# Altium schematic symbol library ADP_MyLib.SchLib: 175 symbols (part 1 of 3)
Pins are listed as number, name and electrical type; pins without a type are passive.

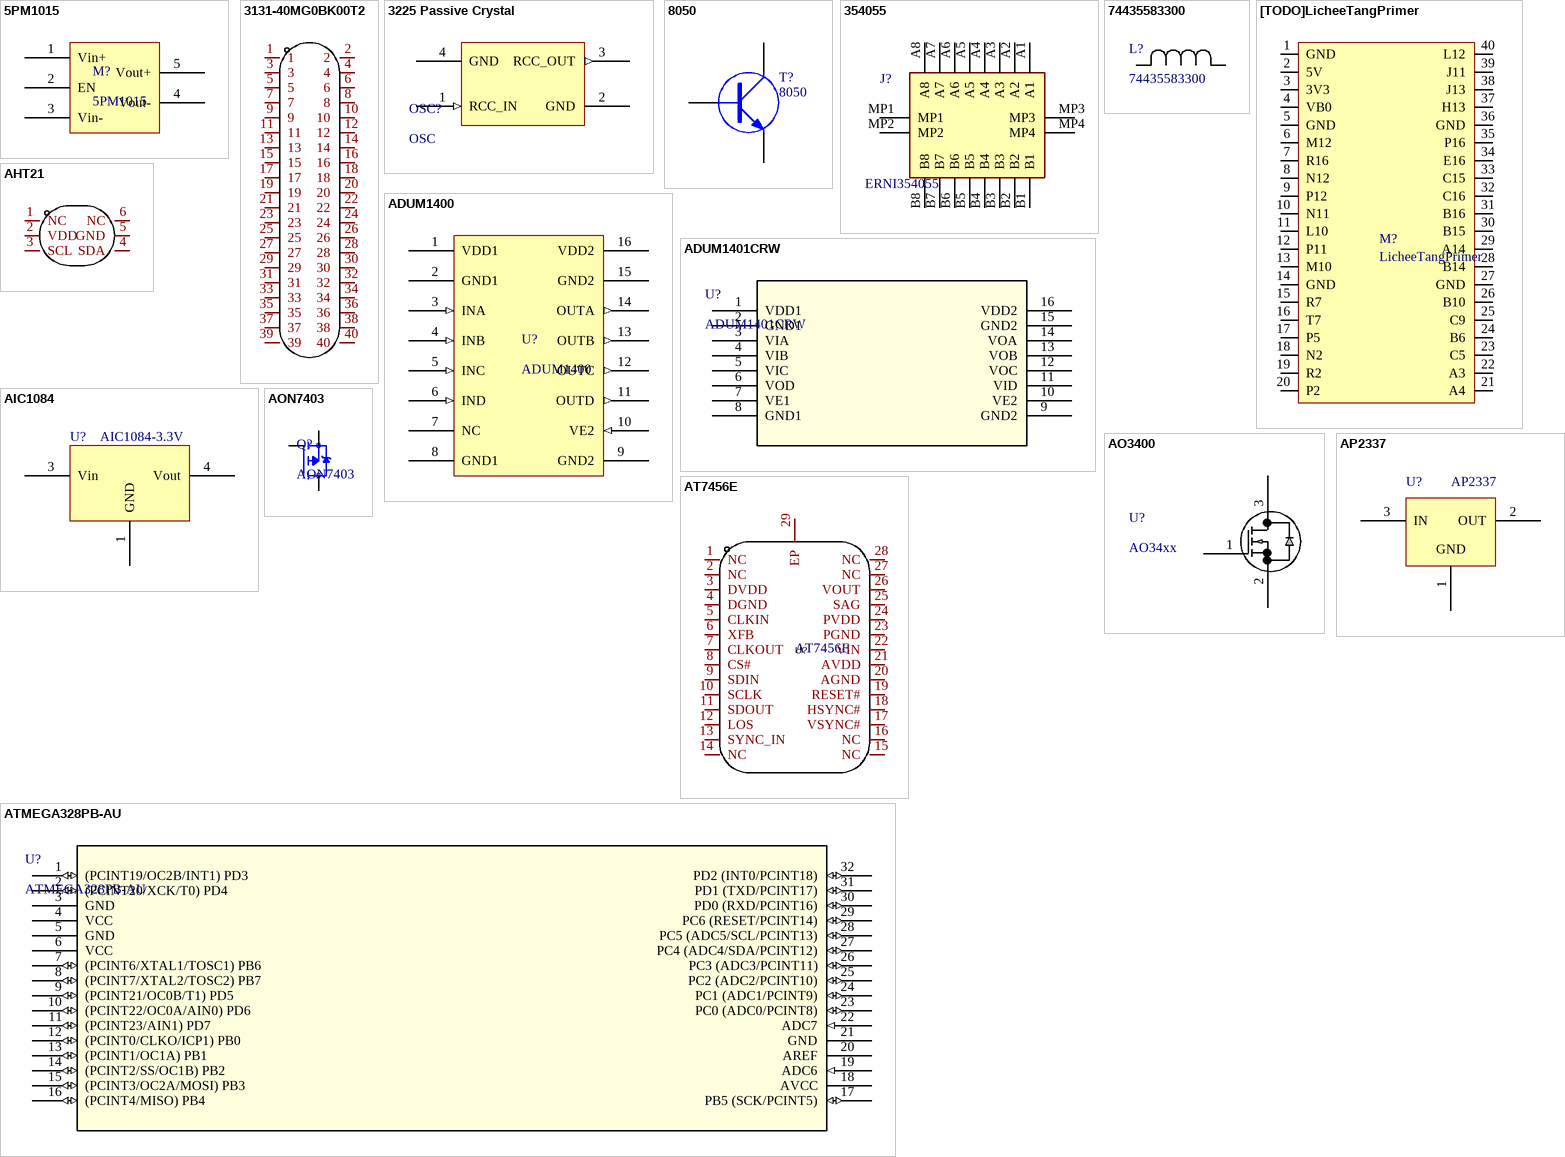
[diagram p0: symbols 5PM1015 to ATMEGA328PB-AU]

## 5PM1015
designator M?
5A输出电源模块
footprint 5PM1015 (5A输出电源模块)
pins: 1 Vin+, 2 EN, 3 Vin-, 4 Vout-, 5 Vout+

## 3131-40MG0BK00T2
designator CN?  (value not drawn)
2X20P BTB; Manufacturer: Wcon(维峰电子); Add into BOM: yes; Connector Type: 简牛座; Pitch: 1.27mm; Current Rating (Max): 1A; Holder Type: 立贴; Pin Number in each Row: 20; Symbol: 3131-40MG0BK00T2; Device: 3131-40MG0BK00T2; Supplier: LCSC; Supplier Part: C976753; Manufacturer Part: 3131-40MG0BK00T2; JLCPCB Part Class: Extended Part; LCSC Part Name: 1.27mm 2x20P 排数:2 每排P数:20; Supplier Footprint: SMD,P=1.27mm; Datasheet: https://atta.szlcsc.com/upload/public/pdf/source/20211202/B702BBAB0AED51B28E1877A6EDDD5ECD.pdf; Convert to PCB: yes; Structure: 2x20P; Voltage Rating (Max): -; Row Spacing: 1.27mm; Number of Rows: 2; Operating Temperature Range: -40℃~+105℃
footprint CONN-SMD_40P-P1.27_WCON_3131-40MG0BK00T2
pins: 1, 2, 3, 4, 5, 6, 7, 8, 9, 10, 11, 12, 13, 14, 15, 16, 17, 18, 19, 20, 21, 22, 23, 24, 25, 26, 27, 28, 29, 30, 31, 32, 33, 34, 35, 36, 37, 38, 39, 40

## 3225 Passive Crystal
designator OSC?, comment OSC
晶振
footprint SMD-3225
pins: 1 RCC_IN (in), 2 GND (power), 3 RCC_OUT (out), 4 GND (power)

## 8050
designator T?
NPN三极管
footprint TO92B
footprint SOT23-3L
pins: 1 B, 2 E, 3 C

## 354055
designator J?, comment ERNI354055
SMC Female Connector 16-pin, vertical, SMT; Manufacturer_Name: ERNI; Manufacturer_Part_Number: 354055; Geometry.Height: 6.55mm; Mouser Part Number: 305-354055; Mouser Price/Stock: https://www.mouser.co.uk/ProductDetail/ERNI/354055?qs=5HRuLjoIg%2FHZR%252BxuQao%2FQQ%3D%3D; Arrow Part Number: *; Arrow Price/Stock: *; Datasheet Link: https://www.erni.com/fileadmin/import/products/assets/DC0006573.PDF
footprint 354055
pins: A1, A2, A3, A4, A5, A6, A7, A8, B1, B2, B3, B4, B5, B6, B7, B8, MP1, MP2, MP3, MP4

## 74435583300
designator L?
Inductor; Mfr_Name: Wurth Electronics; Type: DEV; Copyright: Copyright (C) 2023 Ultra Librarian. All rights reserved.; Manufacturer_Part_Number: 74435583300; RefDes: RefDes
footprint IND_2212-WE-HCI_WRE
footprint IND_2212-WE-HCI_WRE-L
footprint IND_2212-WE-HCI_WRE-M
pins: 1, 2

## [TODO]LicheeTangPrimer
designator M?, comment LicheeTangPrimer
TANG-primer开发板
pins: 1 GND, 2 5V, 3 3V3, 4 VB0, 5 GND, 6 M12, 7 R16, 8 N12, 9 P12, 10 N11, 11 L10, 12 P11, 13 M10, 14 GND, 15 R7, 16 T7, 17 P5, 18 N2, 19 R2, 20 P2, 21 A4, 22 A3, 23 C5, 24 B6, 25 C9, 26 B10, 27 GND, 28 B14, 29 A14, 30 B15, 31 B16, 32 C16, 33 C15, 34 E16, 35 P16, 36 GND, 37 H13, 38 J13, 39 J11, 40 L12

## ADUM1400
designator U?
ISOW7840/ADUM1400数字隔离器
footprint ISOW7840 (SOIC, 16-Leads, Body 10.30x7.50mm, Pitch 1.27mm, IPC Medium Density)
pins: 1 VDD1 (power), 2 GND1 (power), 3 INA (in), 4 INB (in), 5 INC (in), 6 IND (in), 7 NC, 8 GND1 (power), 9 GND2 (power), 10 VE2 (in), 11 OUTD (out), 12 OUTC (out), 13 OUTB (out), 14 OUTA (out), 15 GND2 (power), 16 VDD2 (power)

## ADUM1401CRW
designator U?
ADUM1401数字隔离器; Mfr_Name: Analog Devices Inc; RefDes: RefDes; Type: Type
footprint RW_16_ADI
footprint RW_16_ADI-L
footprint RW_16_ADI-M
pins: 1 VDD1 (power), 2 GND1, 3 VIA, 4 VIB, 5 VIC, 6 VOD, 7 VE1, 8 GND1, 9 GND2, 10 VE2, 11 VID, 12 VOC, 13 VOB, 14 VOA, 15 GND2, 16 VDD2 (power)

## AHT21
designator U?  (value not drawn)
Manufacturer: 广州奥松; Add into BOM: yes; Symbol: AHT21; Device: AHT21; Supplier: LCSC; Supplier Part: C2827328; Manufacturer Part: AHT21; JLCPCB Part Class: Extended Part; LCSC Part Name: AHT21; Supplier Footprint: SMD-6P,3x3mm; Datasheet: https://atta.szlcsc.com/upload/public/pdf/source/20210416/C2827328_0E7E1F5A52E8C31F9EEA54660EEC8C04.pdf; Convert to PCB: yes
footprint SENSOR-SMD_L3.0-W3.0-P1.00-BR
pins: 1 NC, 2 VDD, 3 SCL, 4 SDA, 5 GND, 6 NC

## AIC1084
designator U?, comment AIC1084-3.3V
大功率LDO
footprint TO263-2
pins: 1 GND, 3 Vin, 4 Vout

## AO3400
designator U?, comment AO34xx
信号NMOS; Mfr_Name: onsemi; Manufacturer_Part_Number: BSS84LT1G; Copyright: Copyright (C) 2022 Ultra Librarian. All rights reserved.; RefDes: RefDes; Type: DEV
footprint SOT23-3L
pins: 1 G, 2 S, 3 D

## AON7403
designator Q?
P-Channel 30V 11A (Ta), 29A (Tc) 3.1W (Ta), 25W (Tc) Surface Mount 8-DFN (3x3); MF: Alpha & Omega Semiconductor Inc.; SnapEDA_Link: https://www.snapeda.com/parts/AON7403/Alpha%20&%20Omega%20Semiconductor%20Inc./view-part/5163826/?ref=snap; Check_prices: https://www.snapeda.com/parts/AON7403/Alpha%20&%20Omega%20Semiconductor%20Inc./view-part/5163826/?ref=eda; Digi-Key_Part_Number: 785-1303-1-ND; MP: AON7403; Value: *; Package: None
footprint TRANS_AON7403
pins: 1 S, 2 S, 3 S, 4 G, 5_8 D

## AP2337
designator U?
Load Switch
footprint SOT23-3L
pins: 1 GND, 2 OUT, 3 IN

## AT7456E
designator U?
Manufacturer: 杭州中科微; Add into BOM: yes; Symbol: AT7456E; Device: AT7456E; LCSC Part Name: AT7456E; Supplier Part: C82351; Manufacturer Part: AT7456E; Supplier Footprint: TSSOP-28-EP; JLCPCB Part Class: Extended Part; Datasheet: https://atta.szlcsc.com/upload/public/pdf/source/20180326/C82351_A40539A53E8345C88178541014FDE5FB.pdf; Supplier: LCSC; Convert to PCB: yes
footprint TSSOP-28_L9.7-W4.4-P0.65-LS6.4-BL-EP-2
pins: 1 NC, 2 NC, 3 DVDD, 4 DGND, 5 CLKIN, 6 XFB, 7 CLKOUT, 8 CS#, 9 SDIN, 10 SCLK, 11 SDOUT, 12 LOS, 13 SYNC_IN, 14 NC, 15 NC, 16 NC, 17 VSYNC#, 18 HSYNC#, 19 RESET#, 20 AGND, 21 AVDD, 22 VIN, 23 PGND, 24 PVDD, 25 SAG, 26 VOUT, 27 NC, 28 NC, 29 EP

## ATMEGA328PB-AU
designator U?
Arduino MCU; Mfr_Name: Microchip; Copyright: Copyright (C) 2023 Ultra Librarian. All rights reserved.; Manufacturer_Part_Number: ATMEGA328PB-AU; RefDes: RefDes; Type: DEV
footprint 32A_MCH
footprint 32A_MCH-L
footprint 32A_MCH-M
pins: 1 (PCINT19/OC2B/INT1) PD3 (io), 2 (PCINT20/XCK/T0) PD4 (io), 3 GND (power), 4 VCC (power), 5 GND (power), 6 VCC (power), 7 (PCINT6/XTAL1/TOSC1) PB6 (io), 8 (PCINT7/XTAL2/TOSC2) PB7 (io), 9 (PCINT21/OC0B/T1) PD5 (io), 10 (PCINT22/OC0A/AIN0) PD6 (io), 11 (PCINT23/AIN1) PD7 (io), 12 (PCINT0/CLKO/ICP1) PB0 (io), 13 (PCINT1/OC1A) PB1 (io), 14 (PCINT2/SS/OC1B) PB2 (io), 15 (PCINT3/OC2A/MOSI) PB3 (io), 16 (PCINT4/MISO) PB4 (io), 17 PB5 (SCK/PCINT5) (io), 18 AVCC (power), 19 ADC6 (in), 20 AREF, 21 GND (power), 22 ADC7 (in), 23 PC0 (ADC0/PCINT8) (io), 24 PC1 (ADC1/PCINT9) (io), 25 PC2 (ADC2/PCINT10) (io), 26 PC3 (ADC3/PCINT11) (io), 27 PC4 (ADC4/SDA/PCINT12) (io), 28 PC5 (ADC5/SCL/PCINT13) (io), 29 PC6 (RESET/PCINT14) (io), 30 PD0 (RXD/PCINT16) (io), 31 PD1 (TXD/PCINT17) (io), 32 PD2 (INT0/PCINT18) (io)

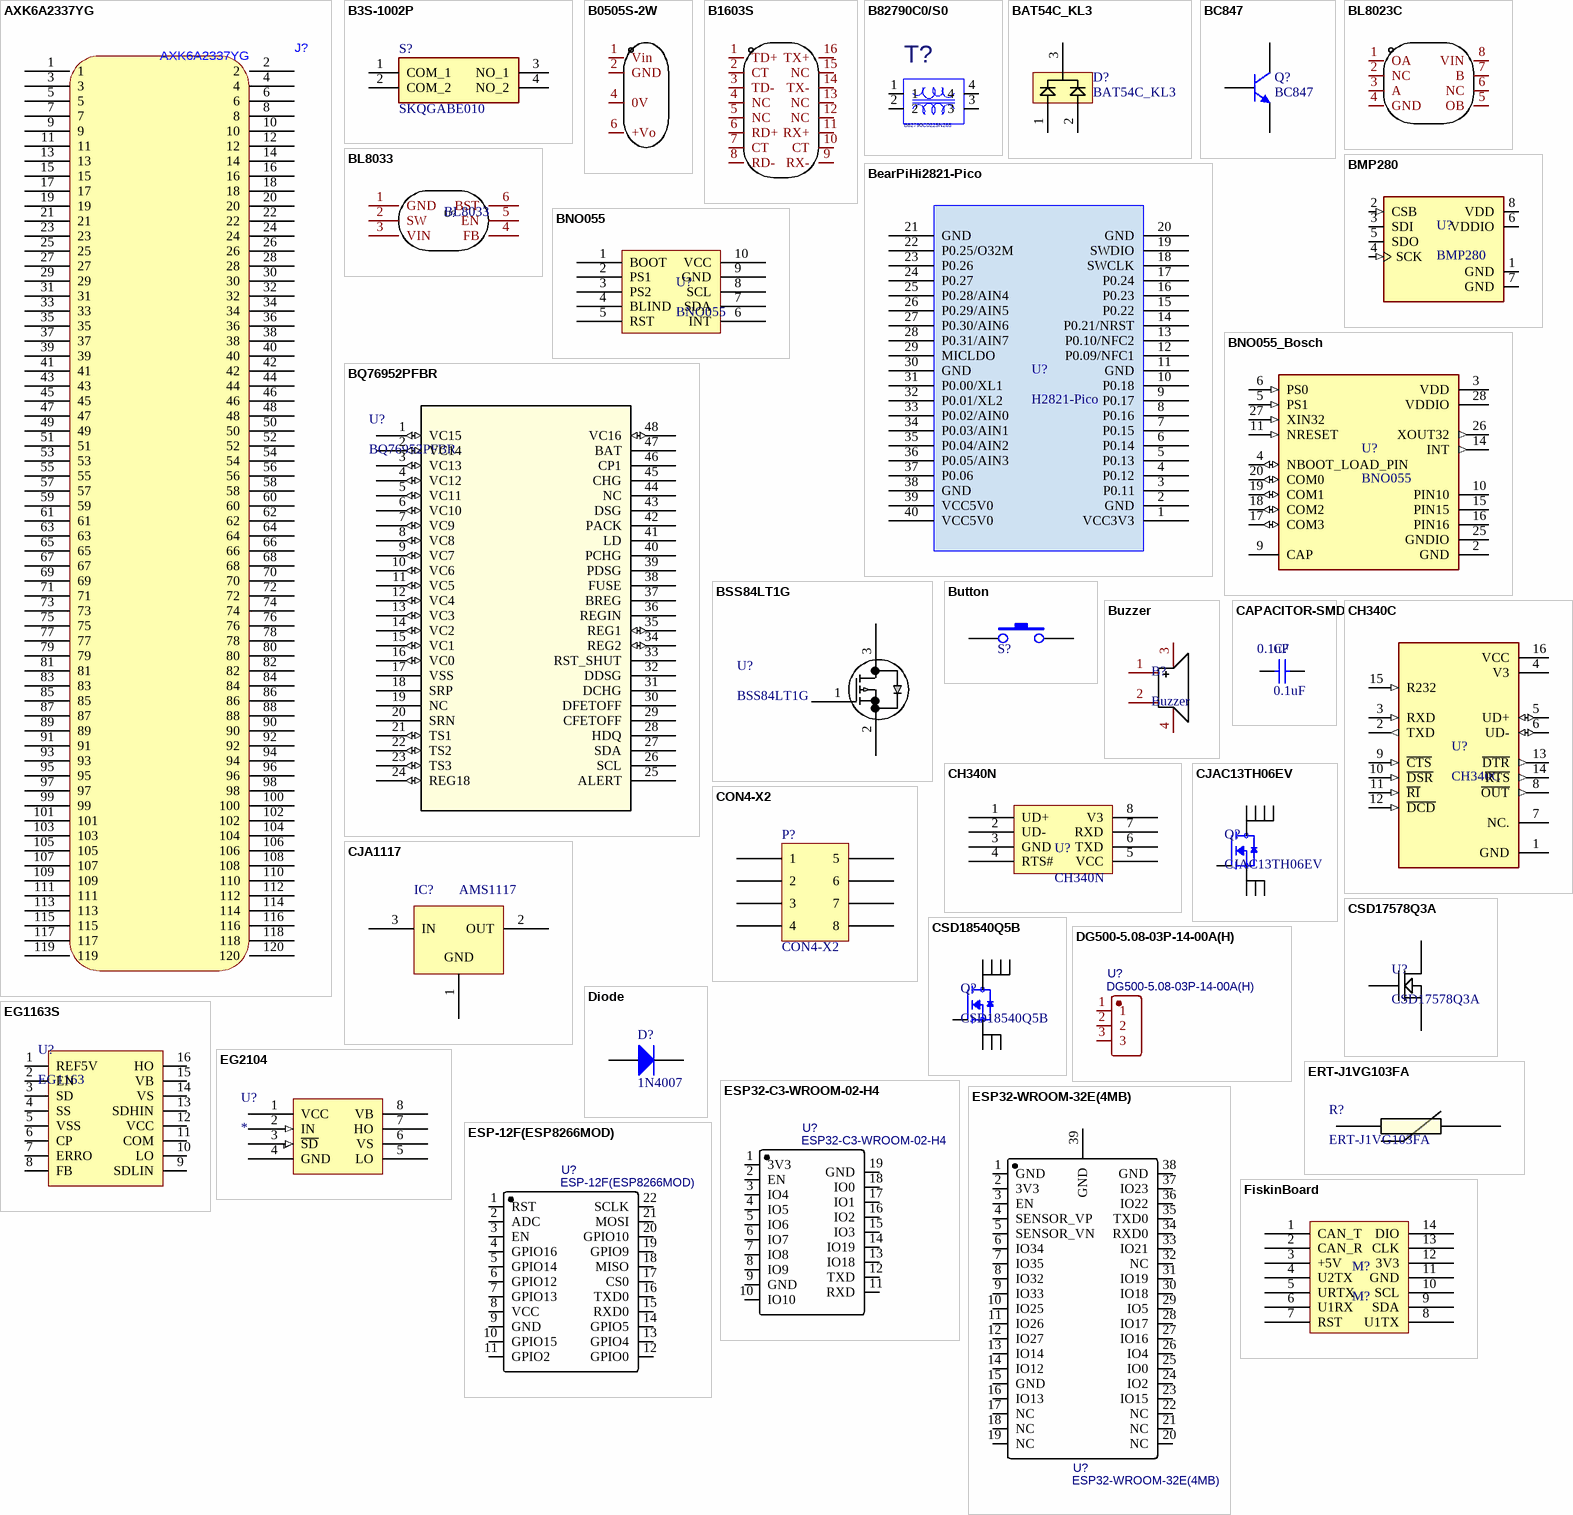
[diagram p1: symbols AXK6A2337YG to FiskinBoard]

## AXK6A2337YG
designator J?
AXK6A2xx7YG-120PIN
footprint AXK6A2337YG
pins: 1, 2, 3, 4, 5, 6, 7, 8, 9, 10, 11, 12, 13, 14, 15, 16, 17, 18, 19, 20, 21, 22, 23, 24, 25, 26, 27, 28, 29, 30, 31, 32, 33, 34, 35, 36, 37, 38, 39, 40, 41, 42, 43, 44, 45, 46, 47, 48, 49, 50, 51, 52, 53, 54, 55, 56, 57, 58, 59, 60, 61, 62, 63, 64, 65, 66, 67, 68, 69, 70, 71, 72, 73, 74, 75, 76, 77, 78, 79, 80, 81, 82, 83, 84, 85, 86, 87, 88, 89, 90, 91, 92, 93, 94, 95, 96, 97, 98, 99, 100, 101, 102, 103, 104, 105, 106, 107, 108, 109, 110, 111, 112, 113, 114, 115, 116, 117, 118, 119, 120

## B3S-1002P
designator S?, comment SKQGABE010
微动开关; Manufacturer_Name: Omron Electronics; Manufacturer_Part_Number: B3S-1002P; Datasheet Link: https://componentsearchengine.com/Datasheets/1/B3S-1002P.pdf; Height: 4.3mm; Mouser Part Number: 653-B3S-1002P; Mouser Price/Stock: https://www.mouser.co.uk/ProductDetail/Omron-Electronics/B3S-1002P?qs=VO24nqdQNUCtpi6pYm2hHQ%3D%3D; Arrow Part Number: B3S-1002P; Arrow Price/Stock: https://www.arrow.com/en/products/b3s1002p/omron
footprint SKQGAKE010
pins: 1 COM_1, 2 COM_2, 3 NO_1, 4 NO_2

## B0505S-2W
designator U?  (value not drawn)
隔离电源模块; Manufacturer: JETEKPS(健特); Symbol: B0505S-2W_C387593; Add into BOM: yes; Conversion Type: DC-DC; Input Voltage(DC): 5V; Output Power: 2W; Output Current (Max): 400mA; Function: 升降压型; Insulated Voltage: 1.5kV; Conversion Efficiency: 84%; Maximum Capacitive Load: 2200uF; Device: B0505S-2W_C387593; LCSC Part Name: B0505S-2W; Supplier Part: C387593; Manufacturer Part: B0505S-2W; Supplier Footprint: 插件; JLCPCB Part Class: Extended Part; Datasheet: https://atta.szlcsc.com/upload/public/pdf/source/20190418/C387593_A852B6DE67BDB73E6C54F725DD16854E.pdf; Supplier: LCSC; Convert to PCB: yes; Output Voltage: 5V
footprint PWRM-TH_BXXXXS-2W
pins: 1 Vin, 2 GND, 4 0V, 6 +Vo

## B1603S
designator T?  (value not drawn)
百兆网络变压器; Manufacturer: CND-tek(磁联达); Add into BOM: yes; Turns Ratio: 1:1; port: 单口; rate: 100M; HI-POT: 1.5kV; Symbol: B1603S; Device: B1603S; Supplier: LCSC; Supplier Part: C3003215; Manufacturer Part: B1603S; JLCPCB Part Class: Extended Part; LCSC Part Name: B1603S; Supplier Footprint: SOIC-16-7.1mm; Datasheet: https://atta.szlcsc.com/upload/public/pdf/source/20220621/E46676EAD779E5D7558DAB86D017A6AD.pdf; Convert to PCB: yes; operating temperature: 0℃~+70℃
footprint SOIC-16_L12.7-W7.1-P1.27-LS9.5-BL
pins: 1 TD+, 2 CT, 3 TD-, 4 NC, 5 NC, 6 RD+, 7 CT, 8 RD-, 9 RX-, 10 CT, 11 RX+, 12 NC, 13 NC, 14 TX-, 15 NC, 16 TX+

## B82790C0/S0
designator T?  value B82790C0225N265  (hidden comment: B82790C0/S0)
共模电感; PCB DECAL: B82790C0/S0
footprint B82790C0$2F$S0
pins: 1, 2, 3, 4

## BAT54C_KL3
designator D?
小功率双二极管
footprint SO-G3/C2.25 (SOT-23; 3 Leads; Body 3.0 x 2.5 mm, inc. leads (LxW max))
pins: 1, 2, 3

## BC847
designator Q?
NPN通用三极管; Published: 17-Sep-2003; LatestRevisionDate: 12-Dec-2006; LatestRevisionNote: IPC-7351 Footprint Added.; DatasheetVersion: 4-Feb-2002; PackageVersion: May-1999; PackageReference: SOT23; Publisher: Altium Limited; PackageDescription: 3-Pin SOT-23 Package 0.95 mm Pitch, 2.3 mm Lead Span; ComponentLink1Description: Manufacturer Link; ComponentLink1URL: http://www.semiconductors.philips.com/; ComponentLink2Description: Datasheet; ComponentLink2URL: http://www.semiconductors.philips.com/acrobat/datasheets/BC846_BC847_BC848_5.pdf
footprint SOT23-3L
pins: 1 B, 2 E, 3 C

## BearPiHi2821-Pico
designator U?, comment H2821-Pico
footprint H2821-Pico
footprint H2821-Pico-SMT
pins: 1 VCC3V3, 2 GND, 3 P0.11, 4 P0.12, 5 P0.13, 6 P0.14, 7 P0.15, 8 P0.16, 9 P0.17, 10 P0.18, 11 GND, 12 P0.09/NFC1, 13 P0.10/NFC2, 14 P0.21/NRST, 15 P0.22, 16 P0.23, 17 P0.24, 18 SWCLK, 19 SWDIO, 20 GND, 21 GND, 22 P0.25/O32M, 23 P0.26, 24 P0.27, 25 P0.28/AIN4, 26 P0.29/AIN5, 27 P0.30/AIN6, 28 P0.31/AIN7, 29 MICLDO, 30 GND, 31 P0.00/XL1, 32 P0.01/XL2, 33 P0.02/AIN0, 34 P0.03/AIN1, 35 P0.04/AIN2, 36 P0.05/AIN3, 37 P0.06, 38 GND, 39 VCC5V0, 40 VCC5V0

## BL8023C
designator U?  (value not drawn)
磁保持继电器驱动; Manufacturer: BL(上海贝岭); Add into BOM: yes; Symbol: BL8023C; Device: BL8023C; LCSC Part Name: 继电器驱动芯片; Supplier Part: C140619; Manufacturer Part: BL8023C; Supplier Footprint: SOP-8; JLCPCB Part Class: Extended Part; Datasheet: https://atta.szlcsc.com/upload/public/pdf/source/20171113/C140619_15105612940191115772.pdf; Supplier: LCSC; Convert to PCB: yes; Name: BL8023C
footprint SOP-8_L4.9-W3.9-P1.27-LS6.0-BL
pins: 1 OA, 2 NC, 3 A, 4 GND, 5 OB, 6 NC, 7 B, 8 VIN

## BL8033
designator U?
Buck; Manufacturer: SGMICRO(圣邦微); Name: SGM2028-3.3YN5G/TR; Add into BOM: yes; Output Type: 固定; Output Polarity: 正; Number of Outputs: 1; Maximum Input Voltage: 5.5V; Output Voltage: 3.3V; Dropout Voltage: 420mV@(500mA); Output Current: 500mA; Power Supply Rejection Ratio (PSRR): 77dB; Symbol: SGM2028-3.3YN5G/TR; Device: SGM2028-3.3YN5G/TR; LCSC Part Name: 正 Vin=5.5V Vout=3.3V 500mA 77dB; Supplier Part: C81088; Manufacturer Part: SGM2028-3.3YN5G/TR; Supplier Footprint: SOT-23-5; JLCPCB Part Class: Extended Part; Datasheet: https://atta.szlcsc.com/upload/public/pdf/source/20170704/1499151376719.pdf; Supplier: LCSC; Convert to PCB: yes
footprint SOT23-6 (SOT-23/SC-74A; 5 Leads; Body 3.1 x 3 mm, inc. leads (LxW max))
pins: 1 GND, 2 SW, 3 VIN, 4 FB, 5 EN, 6 BST

## BMP280
designator U?
BMP280 Absolute Barometric Pressure Sensor for Battery Powered Devices 2 x 2.5mm; Package: None; Availability: Unavailable; MP: BMP280; Value: *; Price: None
footprint XDCR_BMP280
pins: 1 GND (power), 2 CSB (in), 3 SDI (io), 4 SCK (in), 5 SDO (io), 6 VDDIO (power), 7 GND (power), 8 VDD (power)

## BNO055
designator U?
DFROBOT-BNO055九轴模块
footprint BNO055 (DFROBOT-BNO055模块)
pins: 1 BOOT, 2 PS1, 3 PS2, 4 BLIND, 5 RST, 6 INT, 7 SDA, 8 SCL, 9 GND, 10 VCC

## BNO055_Bosch
designator U?, comment BNO055
BNO055 9-axis Absolute Orientation Sensor ( SiP ) w/Sensors and Sensor Fusion; Package: None; Price: None; Value: *; MP: BNO055; Availability: Unavailable
footprint LGA28R50P4X10_380X520X100
pins: 2 GND (power), 3 VDD (power), 4 NBOOT_LOAD_PIN (io), 5 PS1 (in), 6 PS0 (in), 9 CAP, 10 PIN10 (power), 11 NRESET (in), 14 INT (out), 15 PIN15 (power), 16 PIN16 (power), 17 COM3 (io), 18 COM2 (io), 19 COM1 (io), 20 COM0 (io), 25 GNDIO (power), 26 XOUT32 (out), 27 XIN32 (in), 28 VDDIO (power)

## BQ76952PFBR
designator U?
BMS; Mfr_Name: Texas Instruments; Copyright: Copyright (C) 2022 Ultra Librarian. All rights reserved.; Manufacturer_Part_Number: BQ76952PFBR; RefDes: RefDes; Type: DEV
footprint QFP_2PFBR_TEX
pins: 1 VC15 (io), 2 VC14 (io), 3 VC13 (io), 4 VC12 (io), 5 VC11 (io), 6 VC10 (io), 7 VC9 (io), 8 VC8 (io), 9 VC7 (io), 10 VC6 (io), 11 VC5 (io), 12 VC4 (io), 13 VC3 (io), 14 VC2 (io), 15 VC1 (io), 16 VC0 (io), 17 VSS, 18 SRP, 19 NC, 20 SRN, 21 TS1 (io), 22 TS2 (io), 23 TS3 (io), 24 REG18 (io), 25 ALERT, 26 SCL, 27 SDA, 28 HDQ, 29 CFETOFF, 30 DFETOFF, 31 DCHG, 32 DDSG, 33 RST_SHUT, 34 REG2 (io), 35 REG1 (io), 36 REGIN, 37 BREG, 38 FUSE, 39 PDSG, 40 PCHG, 41 LD, 42 PACK, 43 DSG, 44 NC, 45 CHG, 46 CP1, 47 BAT, 48 VC16 (io)

## BSS84LT1G
designator U?
信号PMOS; Mfr_Name: onsemi; Copyright: Copyright (C) 2022 Ultra Librarian. All rights reserved.; Manufacturer_Part_Number: BSS84LT1G; RefDes: RefDes; Type: DEV
footprint SOT23-3L
pins: 1 G, 2 S, 3 D

## Button
designator S?  (value not drawn)
按键
footprint SWT3*4
pins: 1, 2

## Buzzer
designator B?
蜂鸣器
footprint BUZ-SMD_4P-L7.5-W7.5-P6.20-TL-1
footprint BUZ-SMD_4P-L8.5-W8.5-BR-1
pins: 1, 2, 3, 4

## CAPACITOR-SMD
designator C?, comment 0.1uF
贴片电容; value: 0.1uF
footprint 0402-CAP (Chip Capacitor, 2-Leads, Body 1.00x0.50mm, IPC Medium Density)
footprint 0603-CAP (无极性贴片电容)
footprint 0805-CAP (无极性贴片电容)
pins: 1, 2

## CH340C
designator U?
USB串口芯片; MF: WCH; Price: None; Availability: Not in stock; MP: CH340C; Package: None; SnapEDA_Link: https://www.snapeda.com/parts/CH340C/WCH/view-part/?ref=snap; Check_prices: https://www.snapeda.com/parts/CH340C/WCH/view-part/?ref=eda; Value: *
footprint SOIC127P600X180-16N
pins: 1 GND (power), 2 TXD (out), 3 RXD (in), 4 V3 (power), 5 UD+ (io), 6 UD- (io), 7 NC., 8 ~{OUT} (out), 9 ~{CTS} (in), 10 ~{DSR} (in), 11 ~{RI} (in), 12 ~{DCD} (in), 13 ~{DTR} (out), 14 ~{RTS} (out), 15 R232 (in), 16 VCC (power)

## CH340N
designator U?
USB串口芯片
footprint SOP-8_L4.9-W3.9-P1.27-LS6.0-BL
pins: 1 UD+, 2 UD-, 3 GND, 4 RTS#, 5 VCC, 6 TXD, 7 RXD, 8 V3

## CJA1117
designator IC?, comment AMS1117
LDO
footprint SOT89 (SOT89, 3-Leads, Body 4.50x2.45mm, Pitch 1.50mm, Lead Span 4.1mm, IPC Medium Density)
pins: 1 GND, 2 OUT, 3 IN

## CJAC13TH06EV
designator Q?
NMOS; MF: Texas Instruments; MP: CSD18540Q5B; SnapEDA_Link: https://www.snapeda.com/parts/CSD18540Q5B/Texas+Instruments/view-part/?ref=snap; Purchase-URL: https://pricing.snapeda.com/search/part/CSD18540Q5B/?ref=eda; Package: VSON-CLIP-8 Texas Instruments; Price: None; Availability: In Stock; Check_prices: https://www.snapeda.com/parts/CSD18540Q5B/Texas+Instruments/view-part/?ref=eda; Value: *
footprint VSON-CLIP-8(6x5)
pins: 1 S, 2 S, 3 S, 4 G, 5 D, 6 D, 7 D, 8 D

## CON4-X2
designator P?
排针-侧 2*4
footprint 2X4P-FANKE
pins: 1, 2, 3, 4, 5, 6, 7, 8

## CSD17578Q3A
designator U?
功率NMOS; Mfr_Name: Texas Instruments; REFDES_2: RefDes; TYPE_2: TYPE; VALUE_2: Value; Copyright: Copyright (C) 2022 Ultra Librarian. All rights reserved.; Manufacturer_Part_Number: CSD17578Q3A; RefDes: RefDes; Type: DEV
footprint DFN-8(3.3X3.3)
pins: 1 Source, 2 Source, 3 Source, 4 Gate, 5 Drain

## CSD18540Q5B
designator Q?
功率NMOS 60V,2.2mOhm; MF: Texas Instruments; SnapEDA_Link: https://www.snapeda.com/parts/CSD18540Q5B/Texas+Instruments/view-part/?ref=snap; Purchase-URL: https://pricing.snapeda.com/search/part/CSD18540Q5B/?ref=eda; Package: VSON-CLIP-8 Texas Instruments; MP: CSD18540Q5B; Price: None; Availability: In Stock; Check_prices: https://www.snapeda.com/parts/CSD18540Q5B/Texas+Instruments/view-part/?ref=eda; Value: *
footprint VSON-CLIP-8(6x5)
pins: 1 S, 2 S, 3 S, 4 G, 5 D, 6 D, 7 D, 8 D

## DG500-5.08-03P-14-00A(H)
designator U?
BOM_Manufacturer: DEGSON; Contributor: LCSC; BOM_Paste Type: expand; BOM_Assembly Type: manualWeld; BOM_Supplier: LCSC; BOM_Supplier Part: C581322; BOM_Manufacturer Part: DG500-5.08-03P-14-00A(H); spicePre: U; spiceSymbolName: DG500-5.08-03P-14-00A(H)
footprint DG500-5.08-03P-14-00A(H)
pins: 1, 2, 3

## Diode
designator D?, comment 1N4007
footprint SOD323 (SODFL, 2-Leads, Body 1.30x2.60mm, IPC Medium Density)
footprint SOD123 (1206)
footprint SOD123F
footprint SOD323F (SODFL, 2-Leads, Body 1.30x2.60mm, IPC Medium Density)
footprint SOD523 (0603)
footprint SOD-923
footprint SOD80 (LL34)
footprint SOD-882
pins: 1 A, 2 K

## EG1163S
designator U?, comment EG1163
footprint SOP16 (SOP, 16-Leads, Body 9.90x3.90mm, Pitch 1.27mm, IPC Medium Density)
pins: 1 REF5V, 2 EN, 3 SD, 4 SS, 5 VSS, 6 CP, 7 ERRO, 8 FB, 9 SDLIN, 10 LO, 11 COM, 12 VCC, 13 SDHIN, 14 VS, 15 VB, 16 HO

## EG2104
designator U?
footprint SOP-8_L4.9-W3.9-P1.27-LS6.0-BL
pins: 1 VCC (power), 2 IN (in), 3 ~{SD} (in), 4 GND (power), 5 LO, 6 VS, 7 HO, 8 VB (power)

## ERT-J1VG103FA
designator R?
NTC负温度系数电阻; Mfr_Name: Panasonic; Copyright: Copyright (C) 2022 Ultra Librarian. All rights reserved.; Manufacturer_Part_Number: ERT-J1VG103FA; RefDes: RefDes; Type: DEV
footprint ERT-J1VG103FA_PAN-L
pins: 1, 2

## ESP32-C3-WROOM-02-H4
designator U?
BOM_Manufacturer: null; Contributor: LCSC; BOM_Supplier: LCSC; BOM_Supplier Part: C2944070; BOM_Manufacturer Part: ESP32-C3-WROOM-02-H4; BOM_JLCPCB Part Class: Extended Part; spicePre: U; spiceSymbolName: ESP32-C3-WROOM-02-H4
footprint ESP32-C3-WROOM-02-H4
pins: 1 3V3, 2 EN, 3 IO4, 4 IO5, 5 IO6, 6 IO7, 7 IO8, 8 IO9, 9 GND, 10 IO10, 11 RXD, 12 TXD, 13 IO18, 14 IO19, 15 IO3, 16 IO2, 17 IO1, 18 IO0, 19 GND

## ESP32-WROOM-32E(4MB)
designator U?
BOM_Manufacturer: Espressif Systems; Contributor: LCSC; BOM_Paste Type: expand; BOM_Supplier: LCSC; BOM_Supplier Part: C701341; BOM_Manufacturer Part: ESP32-WROOM-32E(4MB); spicePre: U; spiceSymbolName: ESP32-WROOM-32E(4MB)
footprint ESP32-WROOM-32E
pins: 1 GND, 2 3V3, 3 EN, 4 SENSOR_VP, 5 SENSOR_VN, 6 IO34, 7 IO35, 8 IO32, 9 IO33, 10 IO25, 11 IO26, 12 IO27, 13 IO14, 14 IO12, 15 GND, 16 IO13, 17 NC, 18 NC, 19 NC, 20 NC, 21 NC, 22 NC, 23 IO15, 24 IO2, 25 IO0, 26 IO4, 27 IO16, 28 IO17, 29 IO5, 30 IO18, 31 IO19, 32 NC, 33 IO21, 34 RXD0, 35 TXD0, 36 IO22, 37 IO23, 38 GND, 39 GND

## ESP-12F(ESP8266MOD)
designator U?
BOM_Manufacturer: Ai-Thinker; BOM_Supplier: LCSC; BOM_Manufacturer Part: ESP-12F(ESP8266MOD); BOM_Supplier Part: C82891; BOM_JLCPCB Part Class: Extended Part; spicePre: U; spiceSymbolName: ESP-12F(ESP8266MOD)
footprint ESP-12F(ESP8266MOD)
pins: 1 RST, 2 ADC, 3 EN, 4 GPIO16, 5 GPIO14, 6 GPIO12, 7 GPIO13, 8 VCC, 9 GND, 10 GPIO15, 11 GPIO2, 12 GPIO0, 13 GPIO4, 14 GPIO5, 15 RXD0, 16 TXD0, 17 CS0, 18 MISO, 19 GPIO9, 20 GPIO10, 21 MOSI, 22 SCLK

## FiskinBoard
designator M?, comment M?
Fiskin传感器解算板
footprint SensorBoardPro (常用传感器解算板)
pins: 1 CAN_T, 2 CAN_R, 3 +5V, 4 U2TX, 5 URTX, 6 U1RX, 7 RST, 8 U1TX, 9 SDA, 10 SCL, 11 GND, 12 3V3, 13 CLK, 14 DIO

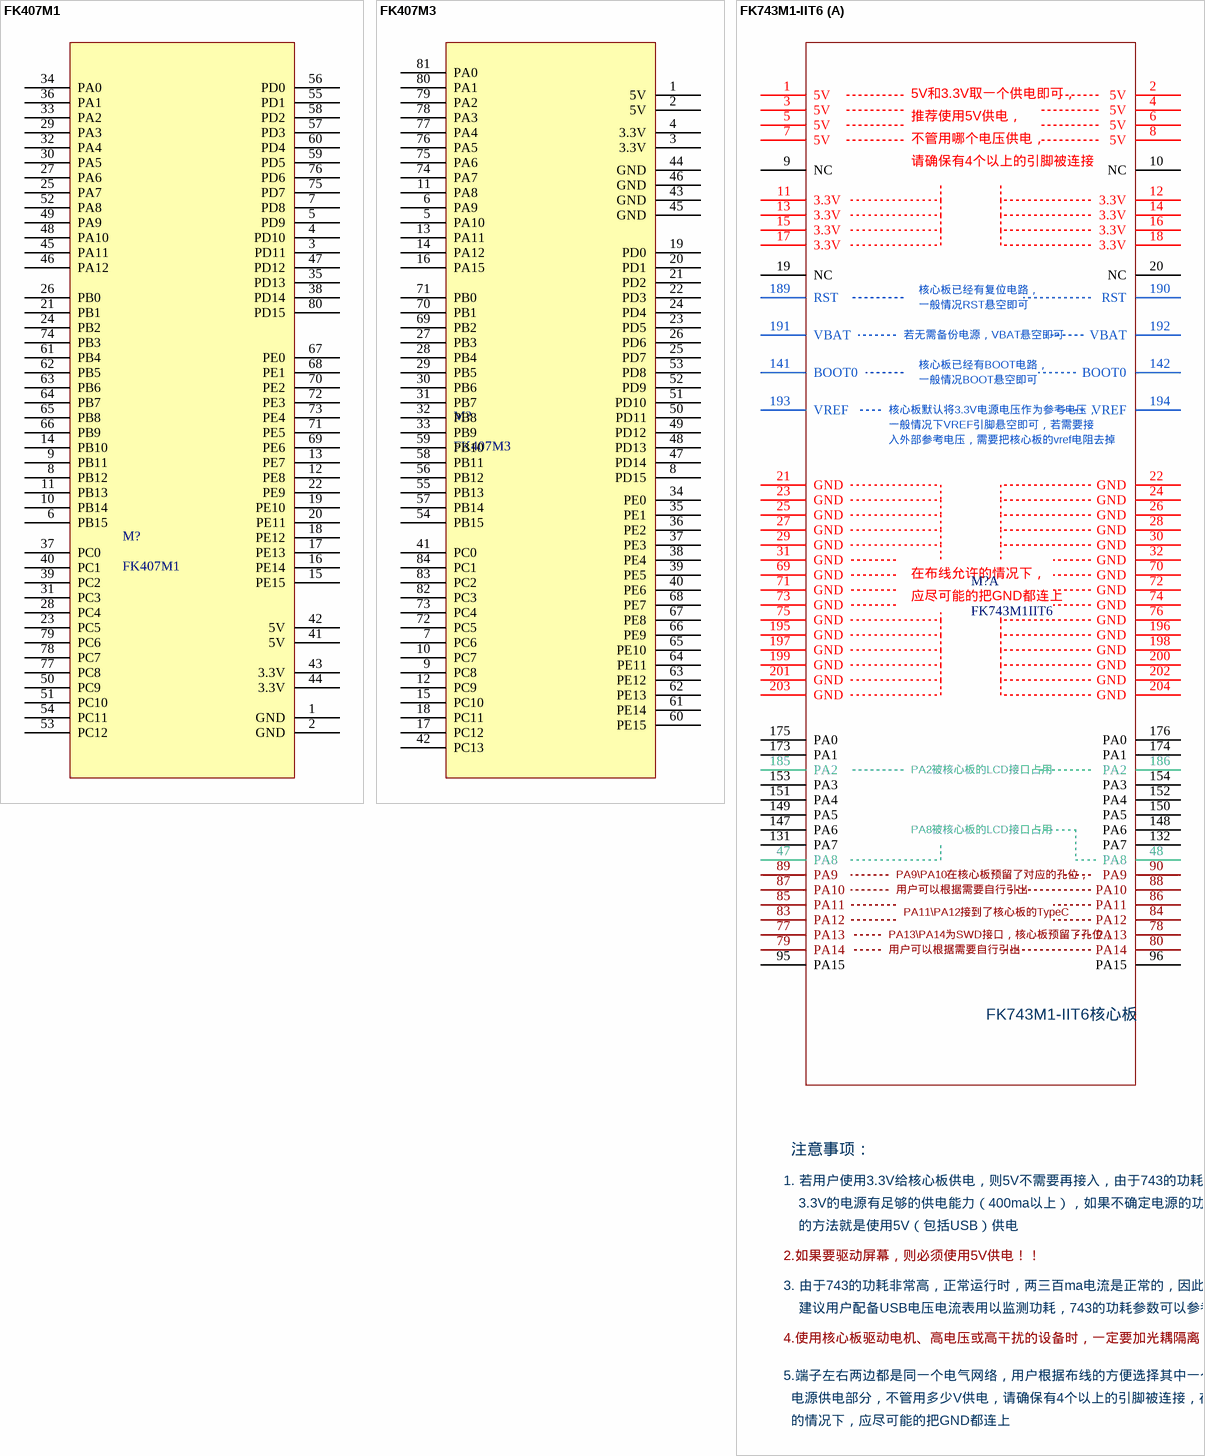
[diagram p2: symbols FK407M1 to FK743M1-IIT6]

## FK407M1
designator M?
footprint FK407M1
pins: 1 GND, 2 GND, 3 PD11, 4 PD10, 5 PD9, 6 PB15, 7 PD8, 8 PB12, 9 PB11, 10 PB14, 11 PB13, 12 PE8, 13 PE7, 14 PB10, 15 PE15, 16 PE14, 17 PE13, 18 PE12, 19 PE10, 20 PE11, 21 PB1, 22 PE9, 23 PC5, 24 PB2, 25 PA7, 26 PB0, 27 PA6, 28 PC4, 29 PA3, 30 PA5, 31 PC3, 32 PA4, 33 PA2, 34 PA0, 35 PD13, 36 PA1, 37 PC0, 38 PD14, 39 PC2, 40 PC1, 41 5V, 42 5V, 43 3.3V, 44 3.3V, 45 PA11, 46 PA12, 47 PD12, 48 PA10, 49 PA9, 50 PC9, 51 PC10, 52 PA8, 53 PC12, 54 PC11, 55 PD1, 56 PD0, 57 PD3, 58 PD2, 59 PD5, 60 PD4, 61 PB4, 62 PB5, 63 PB6, 64 PB7, 65 PB8, 66 PB9, 67 PE0, 68 PE1, 69 PE6, 70 PE2, 71 PE5, 72 PE3, 73 PE4, 74 PB3, 75 PD7, 76 PD6, 77 PC8, 78 PC7, 79 PC6, 80 PD15

## FK407M3
designator M?
footprint FK407M3模块
pins: 1 5V, 2 5V, 3 3.3V, 4 3.3V, 5 PA10, 6 PA9, 7 PC6, 8 PD15, 9 PC8, 10 PC7, 11 PA8, 12 PC9, 13 PA11, 14 PA12, 15 PC10, 16 PA15, 17 PC12, 18 PC11, 19 PD0, 20 PD1, 21 PD2, 22 PD3, 23 PD5, 24 PD4, 25 PD7, 26 PD6, 27 PB3, 28 PB4, 29 PB5, 30 PB6, 31 PB7, 32 PB8, 33 PB9, 34 PE0, 35 PE1, 36 PE2, 37 PE3, 38 PE4, 39 PE5, 40 PE6, 41 PC0, 42 PC13, 43 GND, 44 GND, 45 GND, 46 GND, 47 PD14, 48 PD13, 49 PD12, 50 PD11, 51 PD10, 52 PD9, 53 PD8, 54 PB15, 55 PB13, 56 PB12, 57 PB14, 58 PB11, 59 PB10, 60 PE15, 61 PE14, 62 PE13, 63 PE12, 64 PE11, 65 PE10, 66 PE9, 67 PE8, 68 PE7, 69 PB2, 70 PB1, 71 PB0, 72 PC5, 73 PC4, 74 PA7, 75 PA6, 76 PA5, 77 PA4, 78 PA3, 79 PA2, 80 PA1, 81 PA0, 82 PC3, 83 PC2, 84 PC1

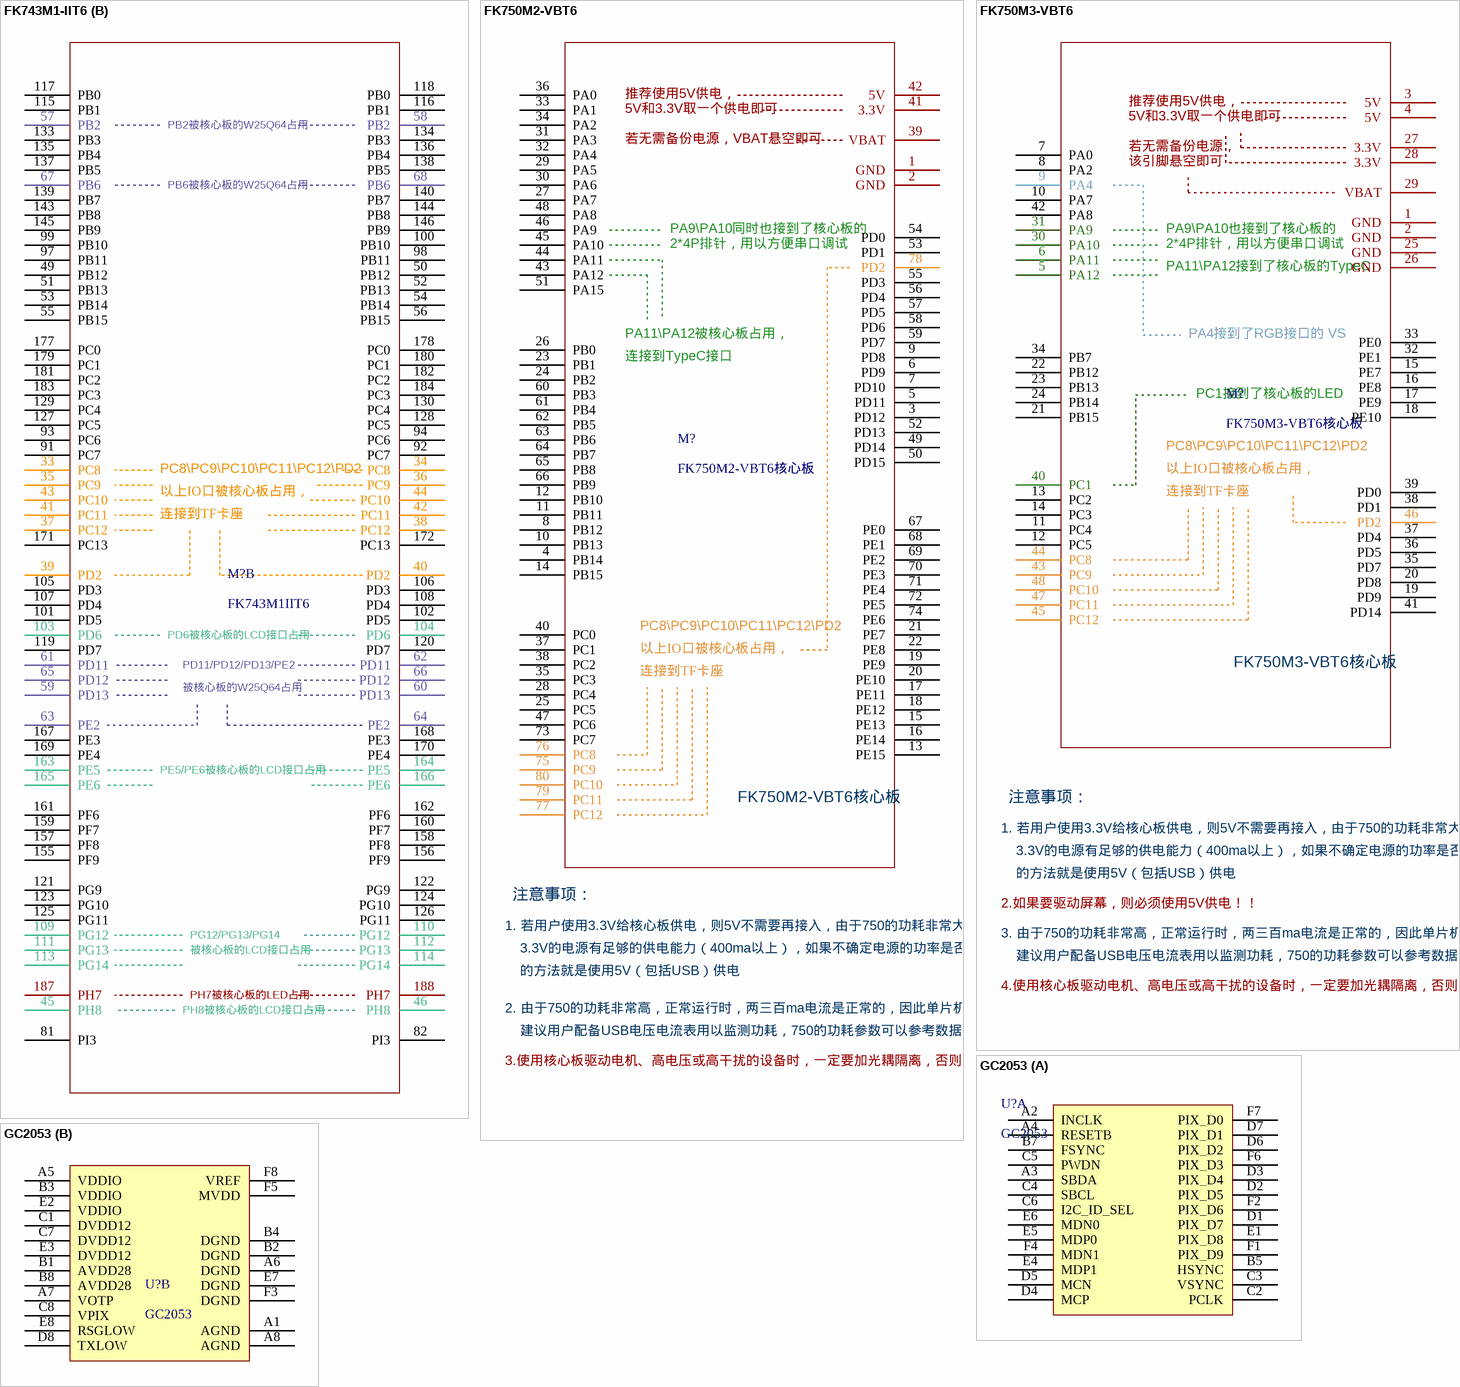
[diagram p3: symbols FK743M1-IIT6 to GC2053]

## FK743M1-IIT6
designator M?, comment FK743M1IIT6
footprint FK743M1-IIT6
part A pins: 1 5V, 2 5V, 3 5V, 4 5V, 5 5V, 6 5V, 7 5V, 8 5V, 9 NC, 10 NC, 11 3.3V, 12 3.3V, 13 3.3V, 14 3.3V, 15 3.3V, 16 3.3V, 17 3.3V, 18 3.3V, 19 NC, 20 NC, 21 GND, 22 GND, 23 GND, 24 GND, 25 GND, 26 GND, 27 GND, 28 GND, 29 GND, 30 GND, 31 GND, 32 GND, 47 PA8, 48 PA8, 69 GND, 70 GND, 71 GND, 72 GND, 73 GND, 74 GND, 75 GND, 76 GND, 77 PA13, 78 PA13, 79 PA14, 80 PA14, 83 PA12, 84 PA12, 85 PA11, 86 PA11, 87 PA10, 88 PA10, 89 PA9, 90 PA9, 95 PA15, 96 PA15, 131 PA7, 132 PA7, 141 BOOT0, 142 BOOT0, 147 PA6, 148 PA6, 149 PA5, 150 PA5, 151 PA4, 152 PA4, 153 PA3, 154 PA3, 173 PA1, 174 PA1, 175 PA0, 176 PA0, 185 PA2, 186 PA2, 189 RST, 190 RST, 191 VBAT, 192 VBAT, 193 VREF, 194 VREF, 195 GND, 196 GND, 197 GND, 198 GND, 199 GND, 200 GND, 201 GND, 202 GND, 203 GND, 204 GND
part B pins: 33 PC8, 34 PC8, 35 PC9, 36 PC9, 37 PC12, 38 PC12, 39 PD2, 40 PD2, 41 PC11, 42 PC11, 43 PC10, 44 PC10, 45 PH8, 46 PH8, 49 PB12, 50 PB12, 51 PB13, 52 PB13, 53 PB14, 54 PB14, 55 PB15, 56 PB15, 57 PB2, 58 PB2, 59 PD13, 60 PD13, 61 PD11, 62 PD11, 63 PE2, 64 PE2, 65 PD12, 66 PD12, 67 PB6, 68 PB6, 81 PI3, 82 PI3, 91 PC7, 92 PC7, 93 PC6, 94 PC6, 97 PB11, 98 PB11, 99 PB10, 100 PB10, 101 PD5, 102 PD5, 103 PD6, 104 PD6, 105 PD3, 106 PD3, 107 PD4, 108 PD4, 109 PG12, 110 PG12, 111 PG13, 112 PG13, 113 PG14, 114 PG14, 115 PB1, 116 PB1, 117 PB0, 118 PB0, 119 PD7, 120 PD7, 121 PG9, 122 PG9, 123 PG10, 124 PG10, 125 PG11, 126 PG11, 127 PC5, 128 PC5, 129 PC4, 130 PC4, 133 PB3, 134 PB3, 135 PB4, 136 PB4, 137 PB5, 138 PB5, 139 PB7, 140 PB7, 143 PB8, 144 PB8, 145 PB9, 146 PB9, 155 PF9, 156 PF9, 157 PF8, 158 PF8, 159 PF7, 160 PF7, 161 PF6, 162 PF6, 163 PE5, 164 PE5, 165 PE6, 166 PE6, 167 PE3, 168 PE3, 169 PE4, 170 PE4, 171 PC13, 172 PC13, 177 PC0, 178 PC0, 179 PC1, 180 PC1, 181 PC2, 182 PC2, 183 PC3, 184 PC3, 187 PH7, 188 PH7
part A text: 5V和3.3V取一个供电即可，; 推荐使用5V供电，; 不管用哪个电压供电，; 请确保有4个以上的引脚被连接; 核心板已经有复位电路，; 一般情况RST悬空即可; 若无需备份电源，VBAT悬空即可; 核心板已经有BOOT电路，; 一般情况BOOT悬空即可; 核心板默认将3.3V电源电压作为参考电压，; 一般情况下VREF引脚悬空即可，若需要接; 入外部参考电压，需要把核心板的vref电阻去掉; 在布线允许的情况下，; 应尽可能的把GND都连上; PA2被核心板的LCD接口占用; PA8被核心板的LCD接口占用; PA9\PA10在核心板预留了对应的孔位，; 用户可以根据需要自行引出; PA11\PA12接到了核心板的TypeC; PA13\PA14为SWD接口，核心板预留了孔位，; FK743M1-IIT6核心板; 注意事项：; 1. 若用户使用3.3V给核心板供电，则5V不需要再接入，由于743的功耗非常大，必须要确保; 3.3V的电源有足够的供电能力（400ma以上），如果不确定电源的功率是否足够，最简单; 的方法就是使用5V（包括USB）供电; 2.如果要驱动屏幕，则必须使用5V供电！！; 3. 由于743的功耗非常高，正常运行时，两三百ma电流是正常的，因此单片机发热会很严重，; 建议用户配备USB电压电流表用以监测功耗，743的功耗参数可以参考数据手册的相关说明; 4.使用核心板驱动电机、高电压或高干扰的设备时，一定要加光耦隔离，否则很容易损坏单片机！！！; 5.端子左右两边都是同一个电气网络，用户根据布线的方便选择其中一个连接即可，; 电源供电部分，不管用多少V供电，请确保有4个以上的引脚被连接，在布线允许; 的情况下，应尽可能的把GND都连上
part B text: PB2被核心板的W25Q64占用; PB6被核心板的W25Q64占用; PC8\PC9\PC10\PC11\PC12\PD2; 以上IO口被核心板占用，; 连接到TF卡座; PD6被核心板的LCD接口占用; PD11/PD12/PD13/PE2; 被核心板的W25Q64占用; PE5/PE6被核心板的LCD接口占用; PG12/PG13/PG14; 被核心板的LCD接口占用; PH7被核心板的LED占用; PH8被核心板的LCD接口占用

## FK750M2-VBT6
designator M?, comment FK750M2-VBT6核心板
footprint FK750M2-VBT6(精简版)
pins: 1 GND, 2 GND, 3 PD12, 4 PB14, 5 PD11, 6 PD9, 7 PD10, 8 PB12, 9 PD8, 10 PB13, 11 PB11, 12 PB10, 13 PE15, 14 PB15, 15 PE13, 16 PE14, 17 PE11, 18 PE12, 19 PE9, 20 PE10, 21 PE7, 22 PE8, 23 PB1, 24 PB2, 25 PC5, 26 PB0, 27 PA7, 28 PC4, 29 PA5, 30 PA6, 31 PA3, 32 PA4, 33 PA1, 34 PA2, 35 PC3, 36 PA0, 37 PC1, 38 PC2, 39 VBAT, 40 PC0, 41 3.3V, 42 5V, 43 PA12, 44 PA11, 45 PA10, 46 PA9, 47 PC6, 48 PA8, 49 PD14, 50 PD15, 51 PA15, 52 PD13, 53 PD1, 54 PD0, 55 PD3, 56 PD4, 57 PD5, 58 PD6, 59 PD7, 60 PB3, 61 PB4, 62 PB5, 63 PB6, 64 PB7, 65 PB8, 66 PB9, 67 PE0, 68 PE1, 69 PE2, 70 PE3, 71 PE4, 72 PE5, 73 PC7, 74 PE6, 75 PC9, 76 PC8, 77 PC12, 78 PD2, 79 PC11, 80 PC10
text: 推荐使用5V供电，; 5V和3.3V取一个供电即可; 若无需备份电源，VBAT悬空即可; PA9\PA10同时也接到了核心板的; 2*4P排针，用以方便串口调试; PA11\PA12被核心板占用，; 连接到TypeC接口; PC8\PC9\PC10\PC11\PC12\PD2; 以上IO口被核心板占用，; 连接到TF卡座; 注意事项：; 1. 若用户使用3.3V给核心板供电，则5V不需要再接入，由于750的功耗非常大，必须要确保; 3.3V的电源有足够的供电能力（400ma以上），如果不确定电源的功率是否足够，最简单; 的方法就是使用5V（包括USB）供电; 2. 由于750的功耗非常高，正常运行时，两三百ma电流是正常的，因此单片机发热会很严重，; 建议用户配备USB电压电流表用以监测功耗，750的功耗参数可以参考数据手册的相关说明; 3.使用核心板驱动电机、高电压或高干扰的设备时，一定要加光耦隔离，否则很容易损坏单片机！！！

## FK750M3-VBT6
designator M?, comment FK750M3-VBT6核心板
footprint FK750M3-VBT6直插
footprint FK750M3-VBT6半孔贴装
pins: 1 GND, 2 GND, 3 5V, 4 5V, 5 PA12, 6 PA11, 7 PA0, 8 PA2, 9 PA4, 10 PA7, 11 PC4, 12 PC5, 13 PC2, 14 PC3, 15 PE7, 16 PE8, 17 PE9, 18 PE10, 19 PD9, 20 PD8, 21 PB15, 22 PB12, 23 PB13, 24 PB14, 25 GND, 26 GND, 27 3.3V, 28 3.3V, 29 VBAT, 30 PA10, 31 PA9, 32 PE1, 33 PE0, 34 PB7, 35 PD7, 36 PD5, 37 PD4, 38 PD1, 39 PD0, 40 PC1, 41 PD14, 42 PA8, 43 PC9, 44 PC8, 45 PC12, 46 PD2, 47 PC11, 48 PC10
text: 推荐使用5V供电，; 5V和3.3V取一个供电即可; 若无需备份电源，; 该引脚悬空即可; PA9\PA10也接到了核心板的; 2*4P排针，用以方便串口调试; PA11\PA12接到了核心板的TypeC; PA4接到了RGB接口的 VS; PC1接到了核心板的LED; PC8\PC9\PC10\PC11\PC12\PD2; 以上IO口被核心板占用，; 连接到TF卡座; 注意事项：; 1. 若用户使用3.3V给核心板供电，则5V不需要再接入，由于750的功耗非常大，必须要确保; 3.3V的电源有足够的供电能力（400ma以上），如果不确定电源的功率是否足够，最简单; 的方法就是使用5V（包括USB）供电; 2.如果要驱动屏幕，则必须使用5V供电！！; 3. 由于750的功耗非常高，正常运行时，两三百ma电流是正常的，因此单片机发热会很严重，; 建议用户配备USB电压电流表用以监测功耗，750的功耗参数可以参考数据手册的相关说明; 4.使用核心板驱动电机、高电压或高干扰的设备时，一定要加光耦隔离，否则很容易损坏单片机！！！

## GC2053
designator U?
CMOS Sensor
footprint BGA47CP65X69_8X6_410X613X81B30N (Ball Grid Array (BGA), 0.65 mm row pitch X 0.69 mm col. pitch, rect.; 48 pin, 4.102 mm L X 6.135 mm W X 0.815 mm H body)
part A pins: A2 INCLK, A3 SBDA, A4 RESETB, B5 HSYNC, B7 FSYNC, C2 PCLK, C3 VSYNC, C4 SBCL, C5 PWDN, C6 I2C_ID_SEL, D1 PIX_D7, D2 PIX_D5, D3 PIX_D4, D4 MCP, D5 MCN, D6 PIX_D2, D7 PIX_D1, E1 PIX_D8, E4 MDP1, E5 MDP0, E6 MDN0, F1 PIX_D9, F2 PIX_D6, F4 MDN1, F6 PIX_D3, F7 PIX_D0
part B pins: A1 AGND, A5 VDDIO, A6 DGND, A7 VOTP, A8 AGND, B1 AVDD28, B2 DGND, B3 VDDIO, B4 DGND, B8 AVDD28, C1 DVDD12, C7 DVDD12, C8 VPIX, D8 TXLOW, E2 VDDIO, E3 DVDD12, E7 DGND, E8 RSGLOW, F3 DGND, F5 MVDD, F8 VREF

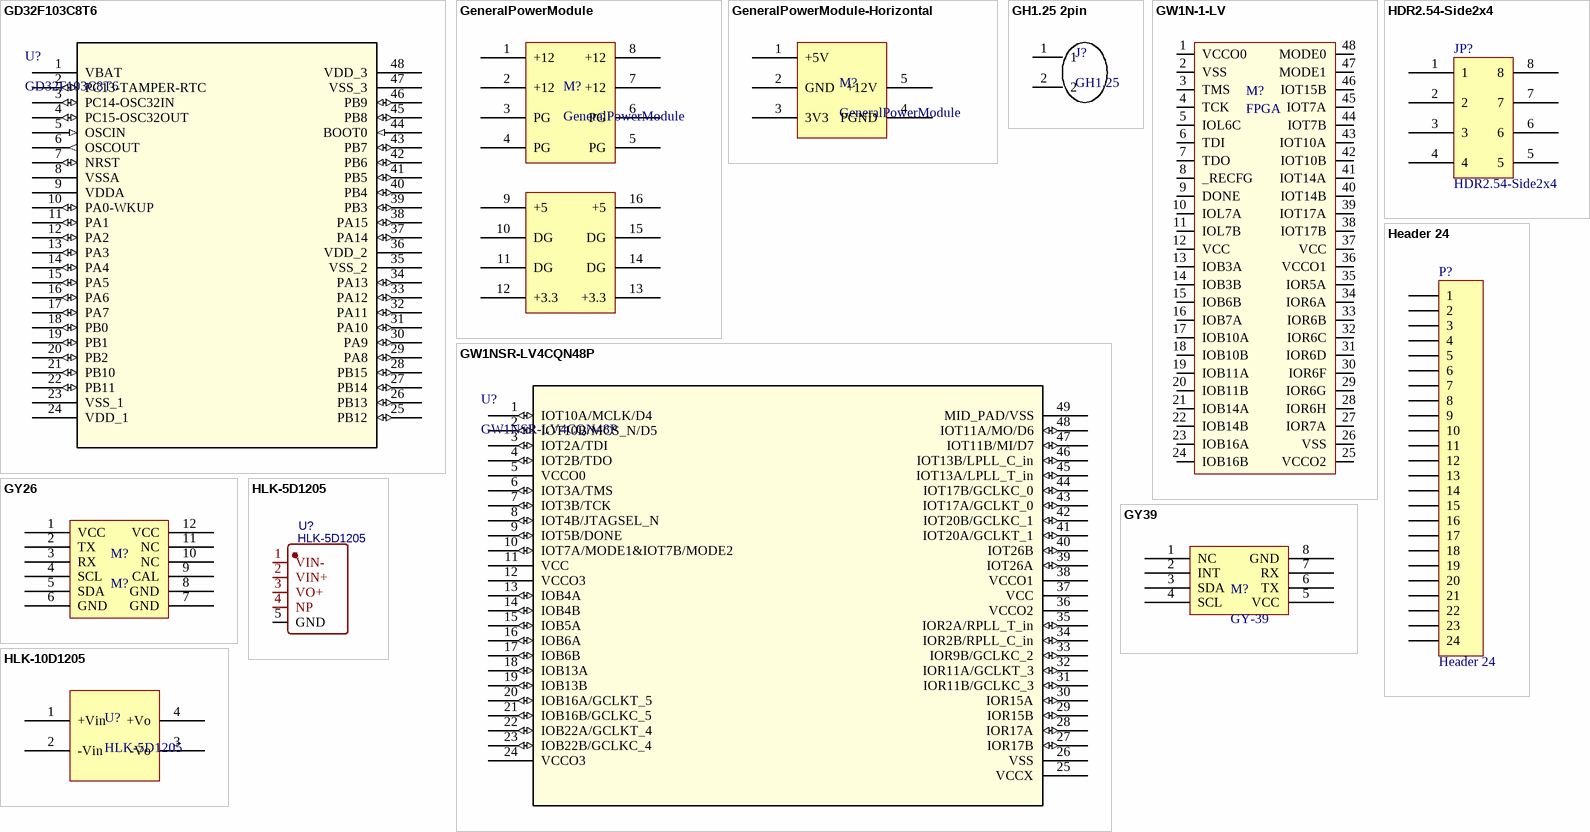
[diagram p4: symbols GD32F103C8T6 to HLK-10D1205]

## GD32F103C8T6
designator U?
国产替换STM32; Mfr_Name: GigaDevice; Copyright: Copyright (C) 2022 Ultra Librarian. All rights reserved.; Manufacturer_Part_Number: GD32F103C8T6; RefDes: RefDes; Type: DEV
footprint LQFP48
pins: 1 VBAT (power), 2 PC13-TAMPER-RTC (io), 3 PC14-OSC32IN (io), 4 PC15-OSC32OUT (io), 5 OSCIN (in), 6 OSCOUT (out), 7 NRST (io), 8 VSSA (power), 9 VDDA (power), 10 PA0-WKUP (io), 11 PA1 (io), 12 PA2 (io), 13 PA3 (io), 14 PA4 (io), 15 PA5 (io), 16 PA6 (io), 17 PA7 (io), 18 PB0 (io), 19 PB1 (io), 20 PB2 (io), 21 PB10 (io), 22 PB11 (io), 23 VSS_1 (power), 24 VDD_1 (power), 25 PB12 (io), 26 PB13 (io), 27 PB14 (io), 28 PB15 (io), 29 PA8 (io), 30 PA9 (io), 31 PA10 (io), 32 PA11 (io), 33 PA12 (io), 34 PA13 (io), 35 VSS_2 (power), 36 VDD_2 (power), 37 PA14 (io), 38 PA15 (io), 39 PB3 (io), 40 PB4 (io), 41 PB5 (io), 42 PB6 (io), 43 PB7 (io), 44 BOOT0 (in), 45 PB8 (io), 46 PB9 (io), 47 VSS_3 (power), 48 VDD_3 (power)

## GeneralPowerModule
designator M?
立式电源模块
footprint 排针-座 2*4
pins: 1 +12, 2 +12, 3 PG, 4 PG, 5 PG, 6 PG, 7 +12, 8 +12, 9 +5, 10 DG, 11 DG, 12 +3.3, 13 +3.3, 14 DG, 15 DG, 16 +5

## GeneralPowerModule-Horizontal
designator M?, comment GeneralPowerModule
叠层电源模块
footprint 螺柱-座 5
pins: 1 +5V, 2 GND, 3 3V3, 4 PGND, 5 +12V

## GH1.25 2pin
designator J?, comment GH1.25
传感器接口
footprint GH1.25 2pin
pins: 1, 2

## GW1N-1-LV
designator M?, comment FPGA
高云GW1N FPGA
footprint QFN48 6X6 (QFN, 48-Leads, Body 7.00x7.00mm, Pitch 0.50mm, Thermal Pad 5.73x5.73mm, IPC Medium Density)
pins: 1 VCCO0, 2 VSS, 3 TMS, 4 TCK, 5 IOL6C, 6 TDI, 7 TDO, 8 _RECFG, 9 DONE, 10 IOL7A, 11 IOL7B, 12 VCC, 13 IOB3A, 14 IOB3B, 15 IOB6B, 16 IOB7A, 17 IOB10A, 18 IOB10B, 19 IOB11A, 20 IOB11B, 21 IOB14A, 22 IOB14B, 23 IOB16A, 24 IOB16B, 25 VCCO2, 26 VSS, 27 IOR7A, 28 IOR6H, 29 IOR6G, 30 IOR6F, 31 IOR6D, 32 IOR6C, 33 IOR6B, 34 IOR6A, 35 IOR5A, 36 VCCO1, 37 VCC, 38 IOT17B, 39 IOT17A, 40 IOT14B, 41 IOT14A, 42 IOT10B, 43 IOT10A, 44 IOT7B, 45 IOT7A, 46 IOT15B, 47 MODE1, 48 MODE0

## GW1NSR-LV4CQN48P
designator U?
高云GW1NSR PSOC; Mfr_Name: GOWIN; Manufacturer_Part_Number: GW1NSR-LV4CQN48GC7I6; Copyright: Copyright (C) 2023 Ultra Librarian. All rights reserved.; RefDes: RefDes; Type: DEV
footprint GW1NSR-4/GW1NSR-4C_QN48P/QN48G_GWN
footprint GW1NSR-4/GW1NSR-4C_QN48P/QN48G_GWN-L
footprint GW1NSR-4/GW1NSR-4C_QN48P/QN48G_GWN-M
pins: 1 IOT10A/MCLK/D4 (io), 2 IOT10B/MCS_N/D5 (io), 3 IOT2A/TDI (io), 4 IOT2B/TDO (io), 5 VCCO0 (power), 6 IOT3A/TMS (io), 7 IOT3B/TCK (io), 8 IOT4B/JTAGSEL_N (io), 9 IOT5B/DONE (io), 10 IOT7A/MODE1&IOT7B/MODE2 (io), 11 VCC (power), 12 VCCO3 (power), 13 IOB4A (io), 14 IOB4B (io), 15 IOB5A (io), 16 IOB6A (io), 17 IOB6B (io), 18 IOB13A (io), 19 IOB13B (io), 20 IOB16A/GCLKT_5 (io), 21 IOB16B/GCLKC_5 (io), 22 IOB22A/GCLKT_4 (io), 23 IOB22B/GCLKC_4 (io), 24 VCCO3 (power), 25 VCCX (power), 26 VSS, 27 IOR17B (io), 28 IOR17A (io), 29 IOR15B (io), 30 IOR15A (io), 31 IOR11B/GCLKC_3 (io), 32 IOR11A/GCLKT_3 (io), 33 IOR9B/GCLKC_2 (io), 34 IOR2B/RPLL_C_in (io), 35 IOR2A/RPLL_T_in (io), 36 VCCO2 (power), 37 VCC (power), 38 VCCO1 (power), 39 IOT26A (io), 40 IOT26B (io), 41 IOT20A/GCLKT_1 (io), 42 IOT20B/GCLKC_1 (io), 43 IOT17A/GCLKT_0 (io), 44 IOT17B/GCLKC_0 (io), 45 IOT13A/LPLL_T_in (io), 46 IOT13B/LPLL_C_in (io), 47 IOT11B/MI/D7 (io), 48 IOT11A/MO/D6 (io), 49 MID_PAD/VSS

## GY26
designator M?, comment M?
电子罗盘
footprint GY26 (GY26电子罗盘模块)
pins: 1 VCC, 2 TX, 3 RX, 4 SCL, 5 SDA, 6 GND, 7 GND, 8 GND, 9 CAL, 10 NC, 11 NC, 12 VCC

## GY39
designator M?, comment GY-39
温湿度大气压光照传感器
footprint GY39
pins: 1 NC, 2 INT, 3 SDA, 4 SCL, 5 VCC, 6 TX, 7 RX, 8 GND

## HDR2.54-Side2x4
designator JP?
侧插排针 2*4
footprint 排针-侧 2*4
pins: 1, 2, 3, 4, 5, 6, 7, 8

## Header 24
designator P?
Header, 24-Pin; LatestRevisionDate: 17-Jul-2002; LatestRevisionNote: Re-released for DXP Platform.; Publisher: Altium Limited
footprint HDR1X24 (Connector; Header; 24 Position)
pins: 1, 2, 3, 4, 5, 6, 7, 8, 9, 10, 11, 12, 13, 14, 15, 16, 17, 18, 19, 20, 21, 22, 23, 24

## HLK-5D1205
designator U?
隔离电源模块12V-5V，大号封装; BOM_Manufacturer: HI-LINK; Contributor: LCSC; BOM_Paste Type: expand; BOM_Supplier: LCSC; BOM_Supplier Part: C474033; BOM_Manufacturer Part: HLK-5D1205; spicePre: U; spiceSymbolName: HLK-5D1205
footprint HLK-5D1205
pins: 1 VIN-, 2 VIN+, 3 VO+, 4 NP, 5 GND

## HLK-10D1205
designator U?, comment HLK-5D1205
隔离电源模块12V-5V，小号封装
footprint HLK-10D1205
pins: 1 +Vin, 2 -Vin, 3 -Vo, 4 +Vo

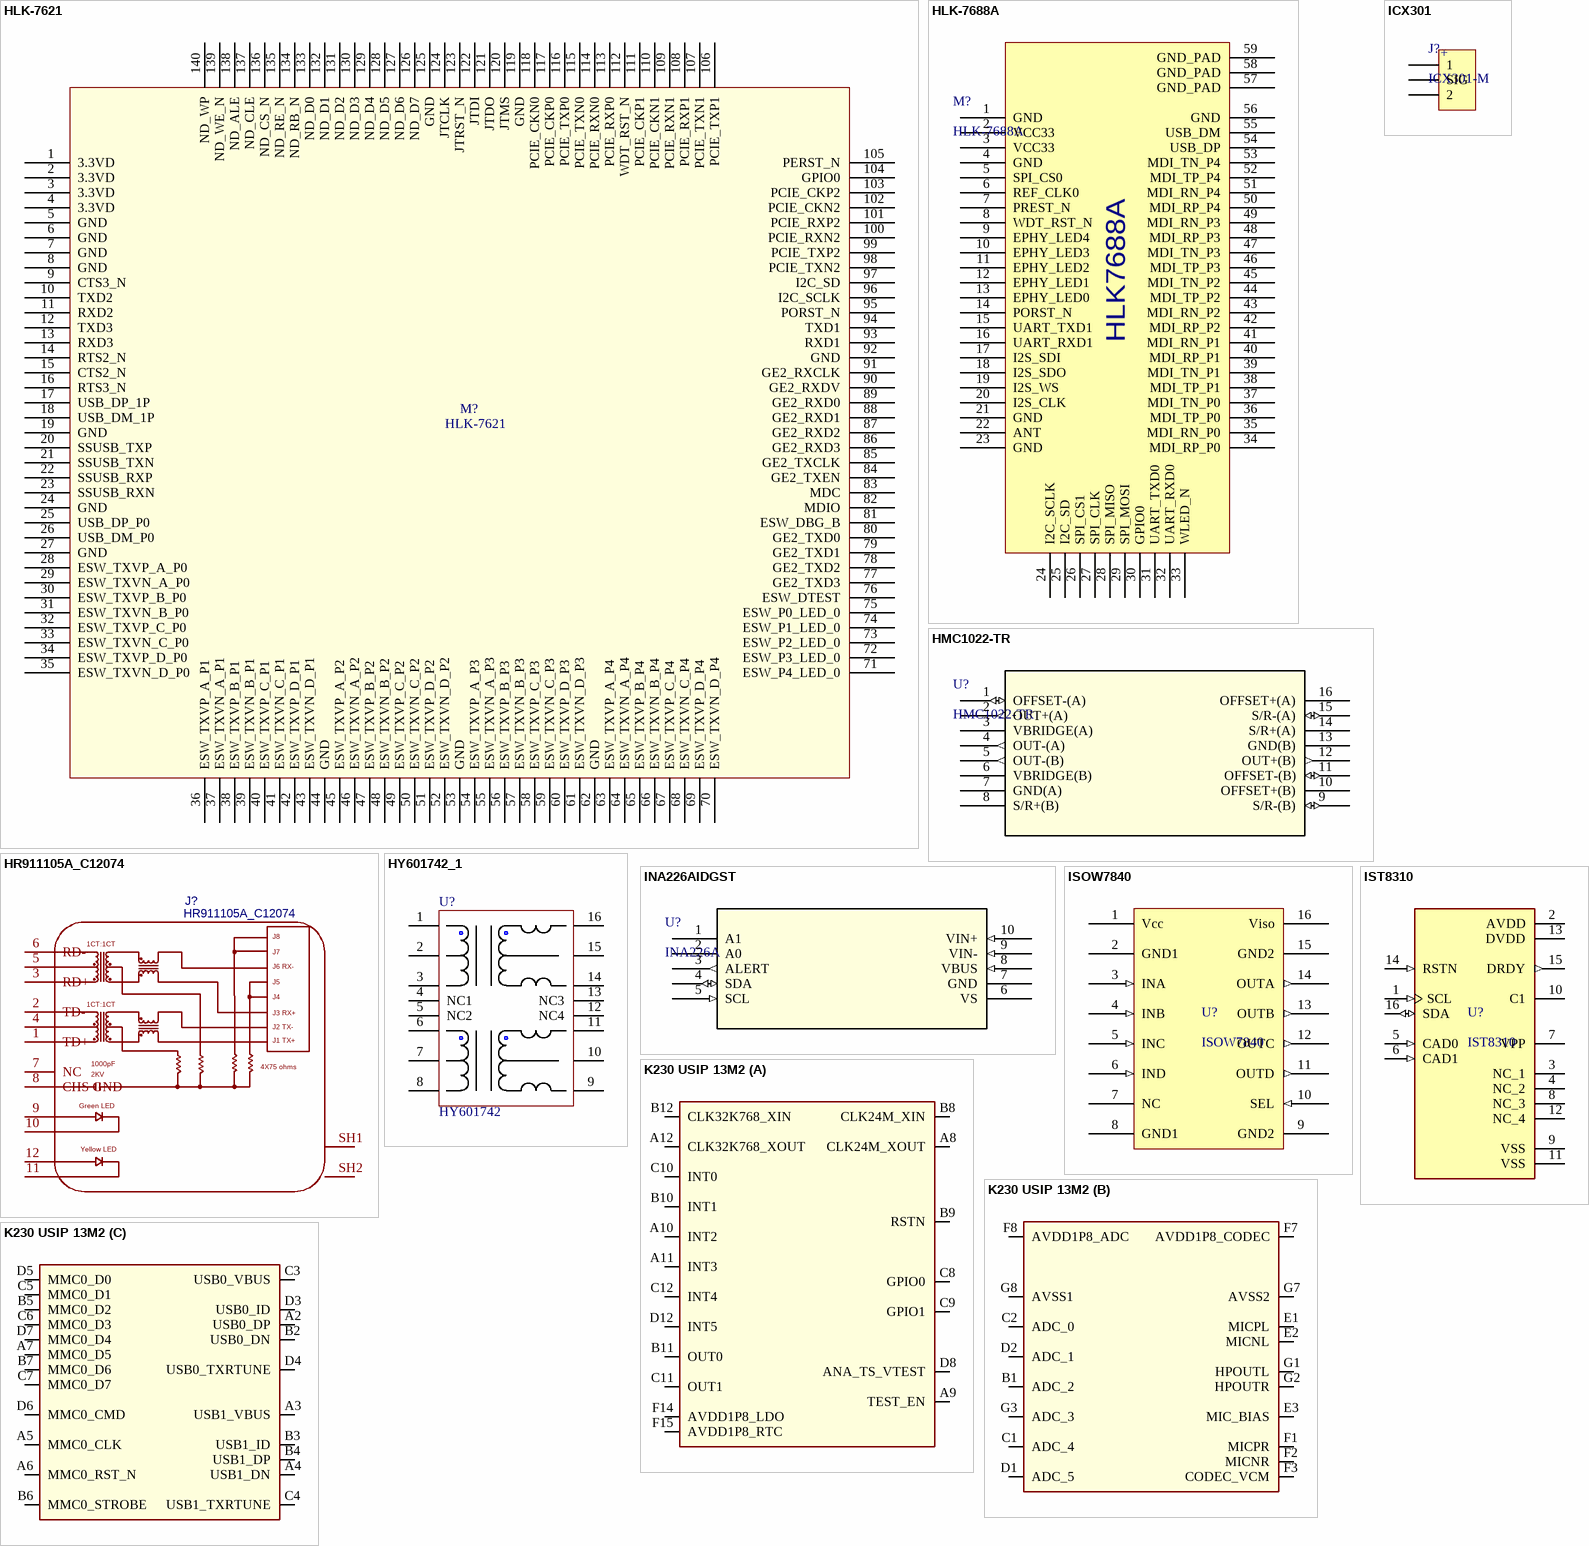
[diagram p5: symbols HLK-7621 to K230 USIP 13M2]

## HLK-7621
designator M?
千兆路由器模块
footprint HLK-7621
pins: 1 3.3VD, 2 3.3VD, 3 3.3VD, 4 3.3VD, 5 GND, 6 GND, 7 GND, 8 GND, 9 CTS3_N, 10 TXD2, 11 RXD2, 12 TXD3, 13 RXD3, 14 RTS2_N, 15 CTS2_N, 16 RTS3_N, 17 USB_DP_1P, 18 USB_DM_1P, 19 GND, 20 SSUSB_TXP, 21 SSUSB_TXN, 22 SSUSB_RXP, 23 SSUSB_RXN, 24 GND, 25 USB_DP_P0, 26 USB_DM_P0, 27 GND, 28 ESW_TXVP_A_P0, 29 ESW_TXVN_A_P0, 30 ESW_TXVP_B_P0, 31 ESW_TXVN_B_P0, 32 ESW_TXVP_C_P0, 33 ESW_TXVN_C_P0, 34 ESW_TXVP_D_P0, 35 ESW_TXVN_D_P0, 36 ESW_TXVP_A_P1, 37 ESW_TXVN_A_P1, 38 ESW_TXVP_B_P1, 39 ESW_TXVN_B_P1, 40 ESW_TXVP_C_P1, 41 ESW_TXVN_C_P1, 42 ESW_TXVP_D_P1, 43 ESW_TXVN_D_P1, 44 GND, 45 ESW_TXVP_A_P2, 46 ESW_TXVN_A_P2, 47 ESW_TXVP_B_P2, 48 ESW_TXVN_B_P2, 49 ESW_TXVP_C_P2, 50 ESW_TXVN_C_P2, 51 ESW_TXVP_D_P2, 52 ESW_TXVN_D_P2, 53 GND, 54 ESW_TXVP_A_P3, 55 ESW_TXVN_A_P3, 56 ESW_TXVP_B_P3, 57 ESW_TXVN_B_P3, 58 ESW_TXVP_C_P3, 59 ESW_TXVN_C_P3, 60 ESW_TXVP_D_P3, 61 ESW_TXVN_D_P3, 62 GND, 63 ESW_TXVP_A_P4, 64 ESW_TXVN_A_P4, 65 ESW_TXVP_B_P4, 66 ESW_TXVN_B_P4, 67 ESW_TXVP_C_P4, 68 ESW_TXVN_C_P4, 69 ESW_TXVP_D_P4, 70 ESW_TXVN_D_P4, 71 ESW_P4_LED_0, 72 ESW_P3_LED_0, 73 ESW_P2_LED_0, 74 ESW_P1_LED_0, 75 ESW_P0_LED_0, 76 ESW_DTEST, 77 GE2_TXD3, 78 GE2_TXD2, 79 GE2_TXD1, 80 GE2_TXD0, 81 ESW_DBG_B, 82 MDIO, 83 MDC, 84 GE2_TXEN, 85 GE2_TXCLK, 86 GE2_RXD3, 87 GE2_RXD2, 88 GE2_RXD1, 89 GE2_RXD0, 90 GE2_RXDV, 91 GE2_RXCLK, 92 GND, 93 RXD1, 94 TXD1, 95 PORST_N, 96 I2C_SCLK, 97 I2C_SD, 98 PCIE_TXN2, 99 PCIE_TXP2, 100 PCIE_RXN2, 101 PCIE_RXP2, 102 PCIE_CKN2, 103 PCIE_CKP2, 104 GPIO0, 105 PERST_N, 106 PCIE_TXP1, 107 PCIE_TXN1, 108 PCIE_RXP1, 109 PCIE_RXN1, 110 PCIE_CKN1, 111 PCIE_CKP1, 112 WDT_RST_N, 113 PCIE_RXP0, 114 PCIE_RXN0, 115 PCIE_TXN0, 116 PCIE_TXP0, 117 PCIE_CKP0, 118 PCIE_CKN0, 119 GND, 120 JTMS, 121 JTDO, 122 JTDI, 123 JTRST_N, 124 JTCLK, 125 GND, 126 ND_D7, 127 ND_D6, 128 ND_D5, 129 ND_D4, 130 ND_D3, 131 ND_D2, 132 ND_D1, 133 ND_D0, 134 ND_RB_N, 135 ND_RE_N, 136 ND_CS_N, 137 ND_CLE, 138 ND_ALE, 139 ND_WE_N, 140 ND_WP

## HLK-7688A
designator M?
MT7688模块
footprint 7688A
pins: 1 GND, 2 VCC33, 3 VCC33, 4 GND, 5 SPI_CS0, 6 REF_CLK0, 7 PREST_N, 8 WDT_RST_N, 9 EPHY_LED4, 10 EPHY_LED3, 11 EPHY_LED2, 12 EPHY_LED1, 13 EPHY_LED0, 14 PORST_N, 15 UART_TXD1, 16 UART_RXD1, 17 I2S_SDI, 18 I2S_SDO, 19 I2S_WS, 20 I2S_CLK, 21 GND, 22 ANT, 23 GND, 24 I2C_SCLK, 25 I2C_SD, 26 SPI_CS1, 27 SPI_CLK, 28 SPI_MISO, 29 SPI_MOSI, 30 GPIO0, 31 UART_TXD0, 32 UART_RXD0, 33 WLED_N, 34 MDI_RP_P0, 35 MDI_RN_P0, 36 MDI_TP_P0, 37 MDI_TN_P0, 38 MDI_TP_P1, 39 MDI_TN_P1, 40 MDI_RP_P1, 41 MDI_RN_P1, 42 MDI_RP_P2, 43 MDI_RN_P2, 44 MDI_TP_P2, 45 MDI_TN_P2, 46 MDI_TP_P3, 47 MDI_TN_P3, 48 MDI_RP_P3, 49 MDI_RN_P3, 50 MDI_RP_P4, 51 MDI_RN_P4, 52 MDI_TP_P4, 53 MDI_TN_P4, 54 USB_DP, 55 USB_DM, 56 GND, 57 GND_PAD, 58 GND_PAD, 59 GND_PAD
text: HLK7688A

## HMC1022-TR
designator U?
单/双轴磁力计; Mfr_Name: Honeywell; RefDes: RefDes; Type: Type
footprint HMC1022_HNW
footprint HMC1022_HNW-L
footprint HMC1022_HNW-M
pins: 1 OFFSET-(A) (io), 2 OUT+(A) (out), 3 VBRIDGE(A), 4 OUT-(A) (out), 5 OUT-(B) (out), 6 VBRIDGE(B), 7 GND(A) (power), 8 S/R+(B), 9 S/R-(B) (io), 10 OFFSET+(B), 11 OFFSET-(B) (io), 12 OUT+(B) (out), 13 GND(B) (power), 14 S/R+(A), 15 S/R-(A) (io), 16 OFFSET+(A)

## HR911105A_C12074
designator J?
带变压器以太网口; BOM_Manufacturer: HANRUN; BOM_Paste Type: expand; BOM_Assembly Type: manualWeld; BOM_Supplier: LCSC; BOM_Manufacturer Part: HR911105A; image: //image.lceda.cn/szlcsc/C12074.jpg; BOM_Supplier Part: C12074; spicePre: J; spiceSymbolName: HR911105A_C12074
footprint RJ45
footprint RJ45-A12 (网线接口)
footprint RJ45-Short (RJ45屏蔽网络插座带LED)
pins: 1 TD+, 2 TD-, 3 RD+, 4, 5, 6 RD-, 7 NC, 8 CHS GND, 9, 10, 11, 12, SH1, SH2
text: J8; 1CT:1CT; J7; J6 RX-; J5; J4; J3 RX+; J2 TX-; J1 TX+; 1000pF; 4X75 ohms; 2KV; Green LED; Yellow LED

## HY601742_1
designator U?, comment HY601742
以太网变压器
footprint SOP-16_350mil (SOP, 16-Leads, Body 12.70x7.11mm, Pitch 1.27mm, IPC Low Density)
pins: 1 TD+, 2 CT1, 3 TD-, 4 NC1, 5 NC2, 6 RD+, 7 CT2, 8 RD-, 9 RX-, 10 CM2, 11 RX+, 12 NC4, 13 NC3, 14 TX-, 15 CM1, 16 TX+

## ICX301
designator J?, comment ICX301-M
XT30直插带信号脚
footprint ICX301
footprint ICX301-M
pins: 1, 2, 3 SIG
text: +

## INA226AIDGST
designator U?, comment INA226A
INA226 INA220 etc; Mfr_Name: Texas Instruments; RefDes: RefDes; Type: Type
footprint DGS10
footprint DGS10-L
footprint DGS10-M
pins: 1 A1, 2 A0, 3 ALERT (out), 4 SDA (io), 5 SCL (in), 6 VS (power), 7 GND (power), 8 VBUS (in), 9 VIN- (in), 10 VIN+ (in)

## ISOW7840
designator U?
数字隔离器
footprint ISOW7840 (SOIC, 16-Leads, Body 10.30x7.50mm, Pitch 1.27mm, IPC Medium Density)
pins: 1 Vcc (power), 2 GND1 (power), 3 INA (in), 4 INB (in), 5 INC (in), 6 IND (in), 7 NC, 8 GND1 (power), 9 GND2 (power), 10 SEL (in), 11 OUTD (out), 12 OUTC (out), 13 OUTB (out), 14 OUTA (out), 15 GND2 (power), 16 Viso (power)

## IST8310
designator U?
3轴磁力计; MF: Isentek; SnapEDA_Link: https://www.snapeda.com/parts/IST8310/Isentek/view-part/3595432/?ref=snap; MP: IST8310; Availability: Unavailable; Price: None; Value: *; Check_prices: https://www.snapeda.com/parts/IST8310/Isentek/view-part/3595432/?ref=eda; Package: Package
footprint PQFN50P300X300X110-16N
pins: 1 SCL (in), 2 AVDD (power), 3 NC_1, 4 NC_2, 5 CAD0 (in), 6 CAD1 (in), 7 VPP, 8 NC_3, 9 VSS (power), 10 C1, 11 VSS (power), 12 NC_4, 13 DVDD (power), 14 RSTN (in), 15 DRDY (out), 16 SDA (io)

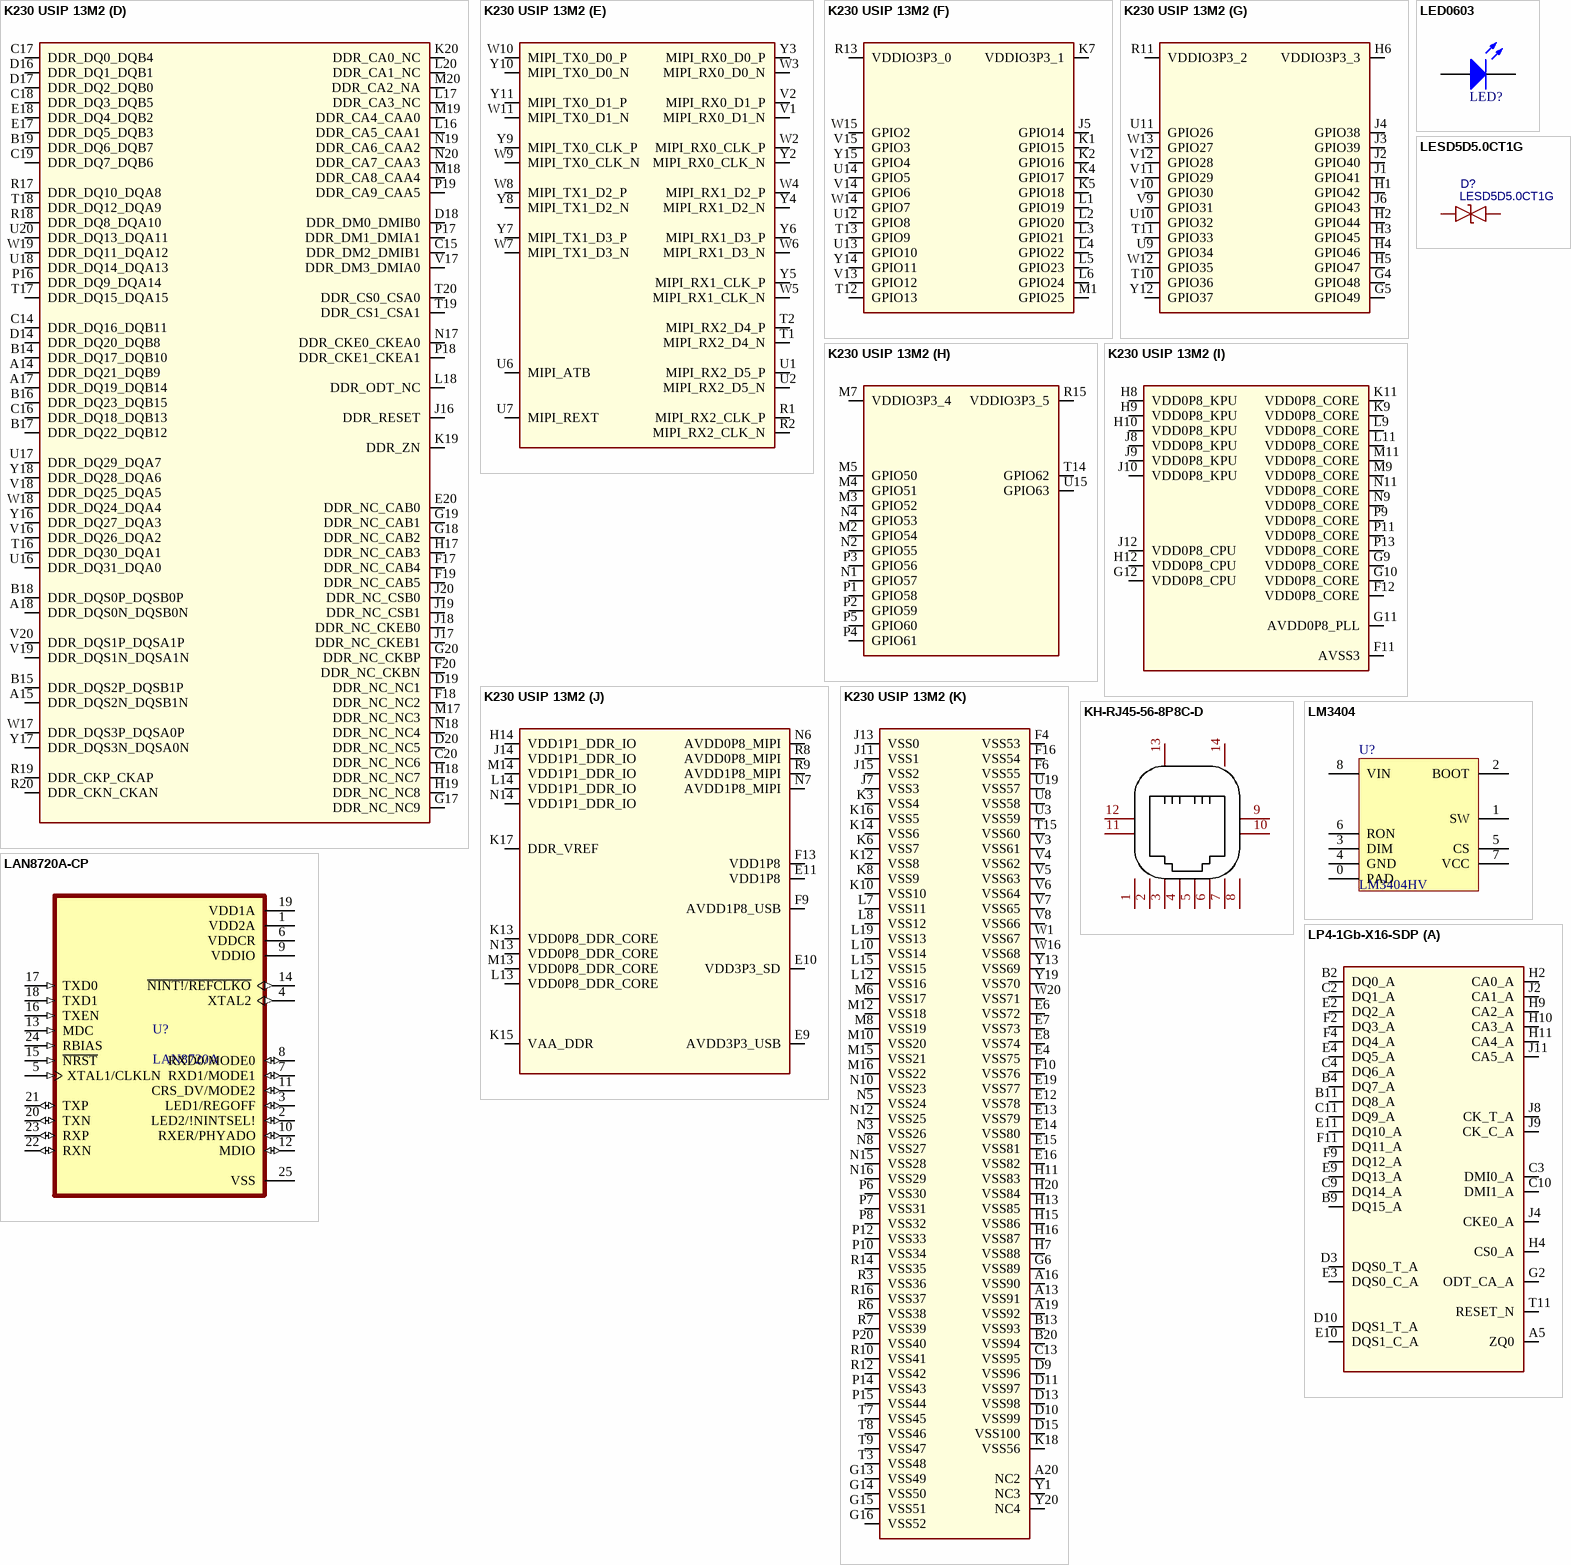
[diagram p6: symbols K230 USIP 13M2 to LP4-1Gb-X16-SDP]

## K230 USIP 13M2
designator U?, comment K230  (value not drawn)
SWAP_INFO: (S1+S2+S3+S4+S5+S6+S7+S8+S9+S10+S11); SPLIT_INST: TRUE
footprint BBGA390-065-1313-020 (K230)
part A pins: A8 CLK24M_XOUT, A9 TEST_EN, A10 INT2, A11 INT3, A12 CLK32K768_XOUT, B8 CLK24M_XIN, B9 RSTN, B10 INT1, B11 OUT0, B12 CLK32K768_XIN, C8 GPIO0, C9 GPIO1, C10 INT0, C11 OUT1, C12 INT4, D8 ANA_TS_VTEST, D12 INT5, F14 AVDD1P8_LDO, F15 AVDD1P8_RTC
part B pins: B1 ADC_2, C1 ADC_4, C2 ADC_0, D1 ADC_5, D2 ADC_1, E1 MICPL, E2 MICNL, E3 MIC_BIAS, F1 MICPR, F2 MICNR, F3 CODEC_VCM, F7 AVDD1P8_CODEC, F8 AVDD1P8_ADC, G1 HPOUTL, G2 HPOUTR, G3 ADC_3, G7 AVSS2, G8 AVSS1
part C pins: A2 USB0_DP, A3 USB1_VBUS, A4 USB1_DN, A5 MMC0_CLK, A6 MMC0_RST_N, A7 MMC0_D5, B2 USB0_DN, B3 USB1_ID, B4 USB1_DP, B5 MMC0_D2, B6 MMC0_STROBE, B7 MMC0_D6, C3 USB0_VBUS, C4 USB1_TXRTUNE, C5 MMC0_D1, C6 MMC0_D3, C7 MMC0_D7, D3 USB0_ID, D4 USB0_TXRTUNE, D5 MMC0_D0, D6 MMC0_CMD, D7 MMC0_D4
part D pins: A14 DDR_DQ21_DQB9, A15 DDR_DQS2N_DQSB1N, A17 DDR_DQ19_DQB14, A18 DDR_DQS0N_DQSB0N, B14 DDR_DQ17_DQB10, B15 DDR_DQS2P_DQSB1P, B16 DDR_DQ23_DQB15, B17 DDR_DQ22_DQB12, B18 DDR_DQS0P_DQSB0P, B19 DDR_DQ6_DQB7, C14 DDR_DQ16_DQB11, C15 DDR_DM2_DMIB1, C16 DDR_DQ18_DQB13, C17 DDR_DQ0_DQB4, C18 DDR_DQ3_DQB5, C19 DDR_DQ7_DQB6, C20 DDR_NC_NC6, D14 DDR_DQ20_DQB8, D16 DDR_DQ1_DQB1, D17 DDR_DQ2_DQB0, D18 DDR_DM0_DMIB0, D19 DDR_NC_NC1, D20 DDR_NC_NC5, E17 DDR_DQ5_DQB3, E18 DDR_DQ4_DQB2, E20 DDR_NC_CAB0, F17 DDR_NC_CAB4, F18 DDR_NC_NC2, F19 DDR_NC_CAB5, F20 DDR_NC_CKBN, G17 DDR_NC_NC9, G18 DDR_NC_CAB2, G19 DDR_NC_CAB1, G20 DDR_NC_CKBP, H17 DDR_NC_CAB3, H18 DDR_NC_NC7, H19 DDR_NC_NC8, J16 DDR_RESET, J17 DDR_NC_CKEB1, J18 DDR_NC_CKEB0, J19 DDR_NC_CSB1, J20 DDR_NC_CSB0, K19 DDR_ZN, K20 DDR_CA0_NC, L16 DDR_CA5_CAA1, L17 DDR_CA3_NC, L18 DDR_ODT_NC, L20 DDR_CA1_NC, M17 DDR_NC_NC3, M18 DDR_CA8_CAA4, M19 DDR_CA4_CAA0, M20 DDR_CA2_NA, N17 DDR_CKE0_CKEA0, N18 DDR_NC_NC4, N19 DDR_CA6_CAA2, N20 DDR_CA7_CAA3, P16 DDR_DQ9_DQA14, P17 DDR_DM1_DMIA1, P18 DDR_CKE1_CKEA1, P19 DDR_CA9_CAA5, R17 DDR_DQ10_DQA8, R18 DDR_DQ8_DQA10, R19 DDR_CKP_CKAP, R20 DDR_CKN_CKAN, T16 DDR_DQ30_DQA1, T17 DDR_DQ15_DQA15, T18 DDR_DQ12_DQA9, T19 DDR_CS1_CSA1, T20 DDR_CS0_CSA0, U16 DDR_DQ31_DQA0, U17 DDR_DQ29_DQA7, U18 DDR_DQ14_DQA13, U20 DDR_DQ13_DQA11, V16 DDR_DQ26_DQA2, V17 DDR_DM3_DMIA0, V18 DDR_DQ25_DQA5, V19 DDR_DQS1N_DQSA1N, V20 DDR_DQS1P_DQSA1P, W17 DDR_DQS3P_DQSA0P, W18 DDR_DQ24_DQA4, W19 DDR_DQ11_DQA12, Y16 DDR_DQ27_DQA3, Y17 DDR_DQS3N_DQSA0N, Y18 DDR_DQ28_DQA6
part E pins: R1 MIPI_RX2_CLK_P, R2 MIPI_RX2_CLK_N, T1 MIPI_RX2_D4_N, T2 MIPI_RX2_D4_P, U1 MIPI_RX2_D5_P, U2 MIPI_RX2_D5_N, U6 MIPI_ATB, U7 MIPI_REXT, V1 MIPI_RX0_D1_N, V2 MIPI_RX0_D1_P, W2 MIPI_RX0_CLK_P, W3 MIPI_RX0_D0_N, W4 MIPI_RX1_D2_P, W5 MIPI_RX1_CLK_N, W6 MIPI_RX1_D3_N, W7 MIPI_TX1_D3_N, W8 MIPI_TX1_D2_P, W9 MIPI_TX0_CLK_N, W10 MIPI_TX0_D0_P, W11 MIPI_TX0_D1_N, Y2 MIPI_RX0_CLK_N, Y3 MIPI_RX0_D0_P, Y4 MIPI_RX1_D2_N, Y5 MIPI_RX1_CLK_P, Y6 MIPI_RX1_D3_P, Y7 MIPI_TX1_D3_P, Y8 MIPI_TX1_D2_N, Y9 MIPI_TX0_CLK_P, Y10 MIPI_TX0_D0_N, Y11 MIPI_TX0_D1_P
part F pins: J5 GPIO14, K1 GPIO15, K2 GPIO16, K4 GPIO17, K5 GPIO18, K7 VDDIO3P3_1, L1 GPIO19, L2 GPIO20, L3 GPIO21, L4 GPIO22, L5 GPIO23, L6 GPIO24, M1 GPIO25, R13 VDDIO3P3_0, T12 GPIO13, T13 GPIO9, U12 GPIO8, U13 GPIO10, U14 GPIO5, V13 GPIO12, V14 GPIO6, V15 GPIO3, W14 GPIO7, W15 GPIO2, Y14 GPIO11, Y15 GPIO4
part G pins: G4 GPIO48, G5 GPIO49, H1 GPIO42, H2 GPIO44, H3 GPIO45, H4 GPIO46, H5 GPIO47, H6 VDDIO3P3_3, J1 GPIO41, J2 GPIO40, J3 GPIO39, J4 GPIO38, J6 GPIO43, R11 VDDIO3P3_2, T10 GPIO36, T11 GPIO33, U9 GPIO34, U10 GPIO32, U11 GPIO26, V9 GPIO31, V10 GPIO30, V11 GPIO29, V12 GPIO28, W12 GPIO35, W13 GPIO27, Y12 GPIO37
part H pins: M2 GPIO54, M3 GPIO52, M4 GPIO51, M5 GPIO50, M7 VDDIO3P3_4, N1 GPIO57, N2 GPIO55, N4 GPIO53, P1 GPIO58, P2 GPIO59, P3 GPIO56, P4 GPIO61, P5 GPIO60, R15 VDDIO3P3_5, T14 GPIO62, U15 GPIO63
part I pins: F11 AVSS3, F12 VDD0P8_CORE (power), G9 VDD0P8_CORE (power), G10 VDD0P8_CORE (power), G11 AVDD0P8_PLL (power), G12 VDD0P8_CPU (power), H8 VDD0P8_KPU (power), H9 VDD0P8_KPU (power), H10 VDD0P8_KPU (power), H12 VDD0P8_CPU (power), J8 VDD0P8_KPU (power), J9 VDD0P8_KPU (power), J10 VDD0P8_KPU (power), J12 VDD0P8_CPU (power), K9 VDD0P8_CORE (power), K11 VDD0P8_CORE (power), L9 VDD0P8_CORE (power), L11 VDD0P8_CORE (power), M9 VDD0P8_CORE (power), M11 VDD0P8_CORE (power), N9 VDD0P8_CORE (power), N11 VDD0P8_CORE (power), P9 VDD0P8_CORE (power), P11 VDD0P8_CORE (power), P13 VDD0P8_CORE (power)
part J pins: E9 AVDD3P3_USB (power), E10 VDD3P3_SD (power), E11 VDD1P8 (power), F9 AVDD1P8_USB, F13 VDD1P8 (power), H14 VDD1P1_DDR_IO (power), J14 VDD1P1_DDR_IO (power), K13 VDD0P8_DDR_CORE (power), K15 VAA_DDR (power), K17 DDR_VREF, L13 VDD0P8_DDR_CORE (power), L14 VDD1P1_DDR_IO (power), M13 VDD0P8_DDR_CORE (power), M14 VDD1P1_DDR_IO (power), N6 AVDD0P8_MIPI (power), N7 AVDD1P8_MIPI (power), N13 VDD0P8_DDR_CORE (power), N14 VDD1P1_DDR_IO (power), R8 AVDD0P8_MIPI (power), R9 AVDD1P8_MIPI (power)
part K pins: A13 VSS91, A16 VSS90, A19 VSS92, A20 NC2, B13 VSS93, B20 VSS94, C13 VSS95, D9 VSS96, D10 VSS99, D11 VSS97, D13 VSS98, D15 VSS100, E4 VSS75, E6 VSS72, E7 VSS73, E8 VSS74, E12 VSS78, E13 VSS79, E14 VSS80, E15 VSS81, E16 VSS82, E19 VSS77, F4 VSS53, F6 VSS55, F10 VSS76, F16 VSS54, G6 VSS89, G13 VSS49, G14 VSS50, G15 VSS51, G16 VSS52, H7 VSS88, H11 VSS83, H13 VSS85, H15 VSS86, H16 VSS87, H20 VSS84, J7 VSS3, J11 VSS1, J13 VSS0, J15 VSS2, K3 VSS4, K6 VSS7, K8 VSS9, K10 VSS10, K12 VSS8, K14 VSS6, K16 VSS5, K18 VSS56, L7 VSS11, L8 VSS12, L10 VSS14, L12 VSS16, L15 VSS15, L19 VSS13, M6 VSS17, M8 VSS19, M10 VSS20, M12 VSS18, M15 VSS21, M16 VSS22, N3 VSS26, N5 VSS24, N8 VSS27, N10 VSS23, N12 VSS25, N15 VSS28, N16 VSS29, P6 VSS30, P7 VSS31, P8 VSS32, P10 VSS34, P12 VSS33, P14 VSS43, P15 VSS44, P20 VSS40, R3 VSS36, R6 VSS38, R7 VSS39, R10 VSS41, R12 VSS42, R14 VSS35, R16 VSS37, T3 VSS48, T7 VSS45, T8 VSS46, T9 VSS47, T15 VSS60, U3 VSS59, U8 VSS58, U19 VSS57, V3 VSS61, V4 VSS62, V5 VSS63, V6 VSS64, V7 VSS65, V8 VSS66, W1 VSS67, W16 VSS68, W20 VSS71, Y1 NC3, Y13 VSS69, Y19 VSS70, Y20 NC4

## KH-RJ45-56-8P8C-D
designator RJ?  (value not drawn)
RJ45插座不带网络变压器; Manufacturer: kinghelm(金航标); Add into BOM: yes; Connector Type: RJ插座; USOC Codes: RJ45; Number of Ports: 1; Shielding: 有屏蔽; LED: 带LED; Symbol: KH-RJ45-56-8P8C-D; Device: KH-RJ45-56-8P8C-D; LCSC Part Name: RJ45 弯插 带LED; Supplier Part: C2828082; Manufacturer Part: KH-RJ45-56-8P8C-D; Supplier Footprint: 插件; JLCPCB Part Class: Extended Part; Datasheet: https://atta.szlcsc.com/upload/public/pdf/source/20210423/C2828082_8A546C9394CDA3311512DA62DE64A2CA.pdf; Supplier: LCSC; Convert to PCB: yes; Mounting Style: 弯插; Ratings: -; Contact Material: -; Contact Plating: -; Operating Temperature Range: -; Soldering Temperature(Max): -
footprint RJ45-TH_KH-RJ45-56-8P8C-D
pins: 1, 2, 3, 4, 5, 6, 7, 8, 9 LED-R-, 10 LED-R+, 11 LED-L-, 12 LED-L+, 13 SHELL, 14 SHELL

## LAN8720A-CP
designator U?, comment LAN8720A
2/2 Transceiver Full RMII 24-QFN-EP _4x4_; MF: Microchip; MP: LAN8720A-CP; Package: QFN-24 Microchip; Value: *; Price: None; SnapEDA_Link: https://www.snapeda.com/parts/LAN8720A-CP/Microchip/view-part/237160/?ref=snap; Availability: Unavailable
footprint QFN50P400X400X100-25N
pins: 1 VDD2A (power), 2 LED2/!NINTSEL! (io), 3 LED1/REGOFF (io), 4 XTAL2 (out), 5 XTAL1/CLKLN (in), 6 VDDCR (power), 7 RXD1/MODE1 (io), 8 RXD0/MODE0 (io), 9 VDDIO (power), 10 RXER/PHYADO (io), 11 CRS_DV/MODE2 (io), 12 MDIO (io), 13 MDC (in), 14 ~{NINT!/REFCLKO} (out), 15 ~{NRST} (in), 16 TXEN (in), 17 TXD0 (in), 18 TXD1 (in), 19 VDD1A (power), 20 TXN (io), 21 TXP (io), 22 RXN (io), 23 RXP (io), 24 RBIAS (in), 25 VSS (power)

## LED0603
designator LED?, comment LED  (value not drawn)
LED0603
footprint LED0603
pins: 1 A, 2 K

## LESD5D5.0CT1G
designator D?
双向TVS; BOM_Manufacturer: Leshan Radio; Contributor: LCSC; BOM_Paste Type: expand; BOM_Supplier: LCSC; BOM_Supplier Part: C383211; BOM_Manufacturer Part: LESD5D5.0CT1G; spicePre: D; spiceSymbolName: LESD5D5.0CT1G
footprint LESD5D5.0CT1G
pins: 1, 2

## LM3404
designator U?, comment LM3404HV
footprint SOP-8_EP_150mil
pins: 0 PAD, 1 SW, 2 BOOT, 3 DIM, 4 GND, 5 CS, 6 RON, 7 VCC, 8 VIN

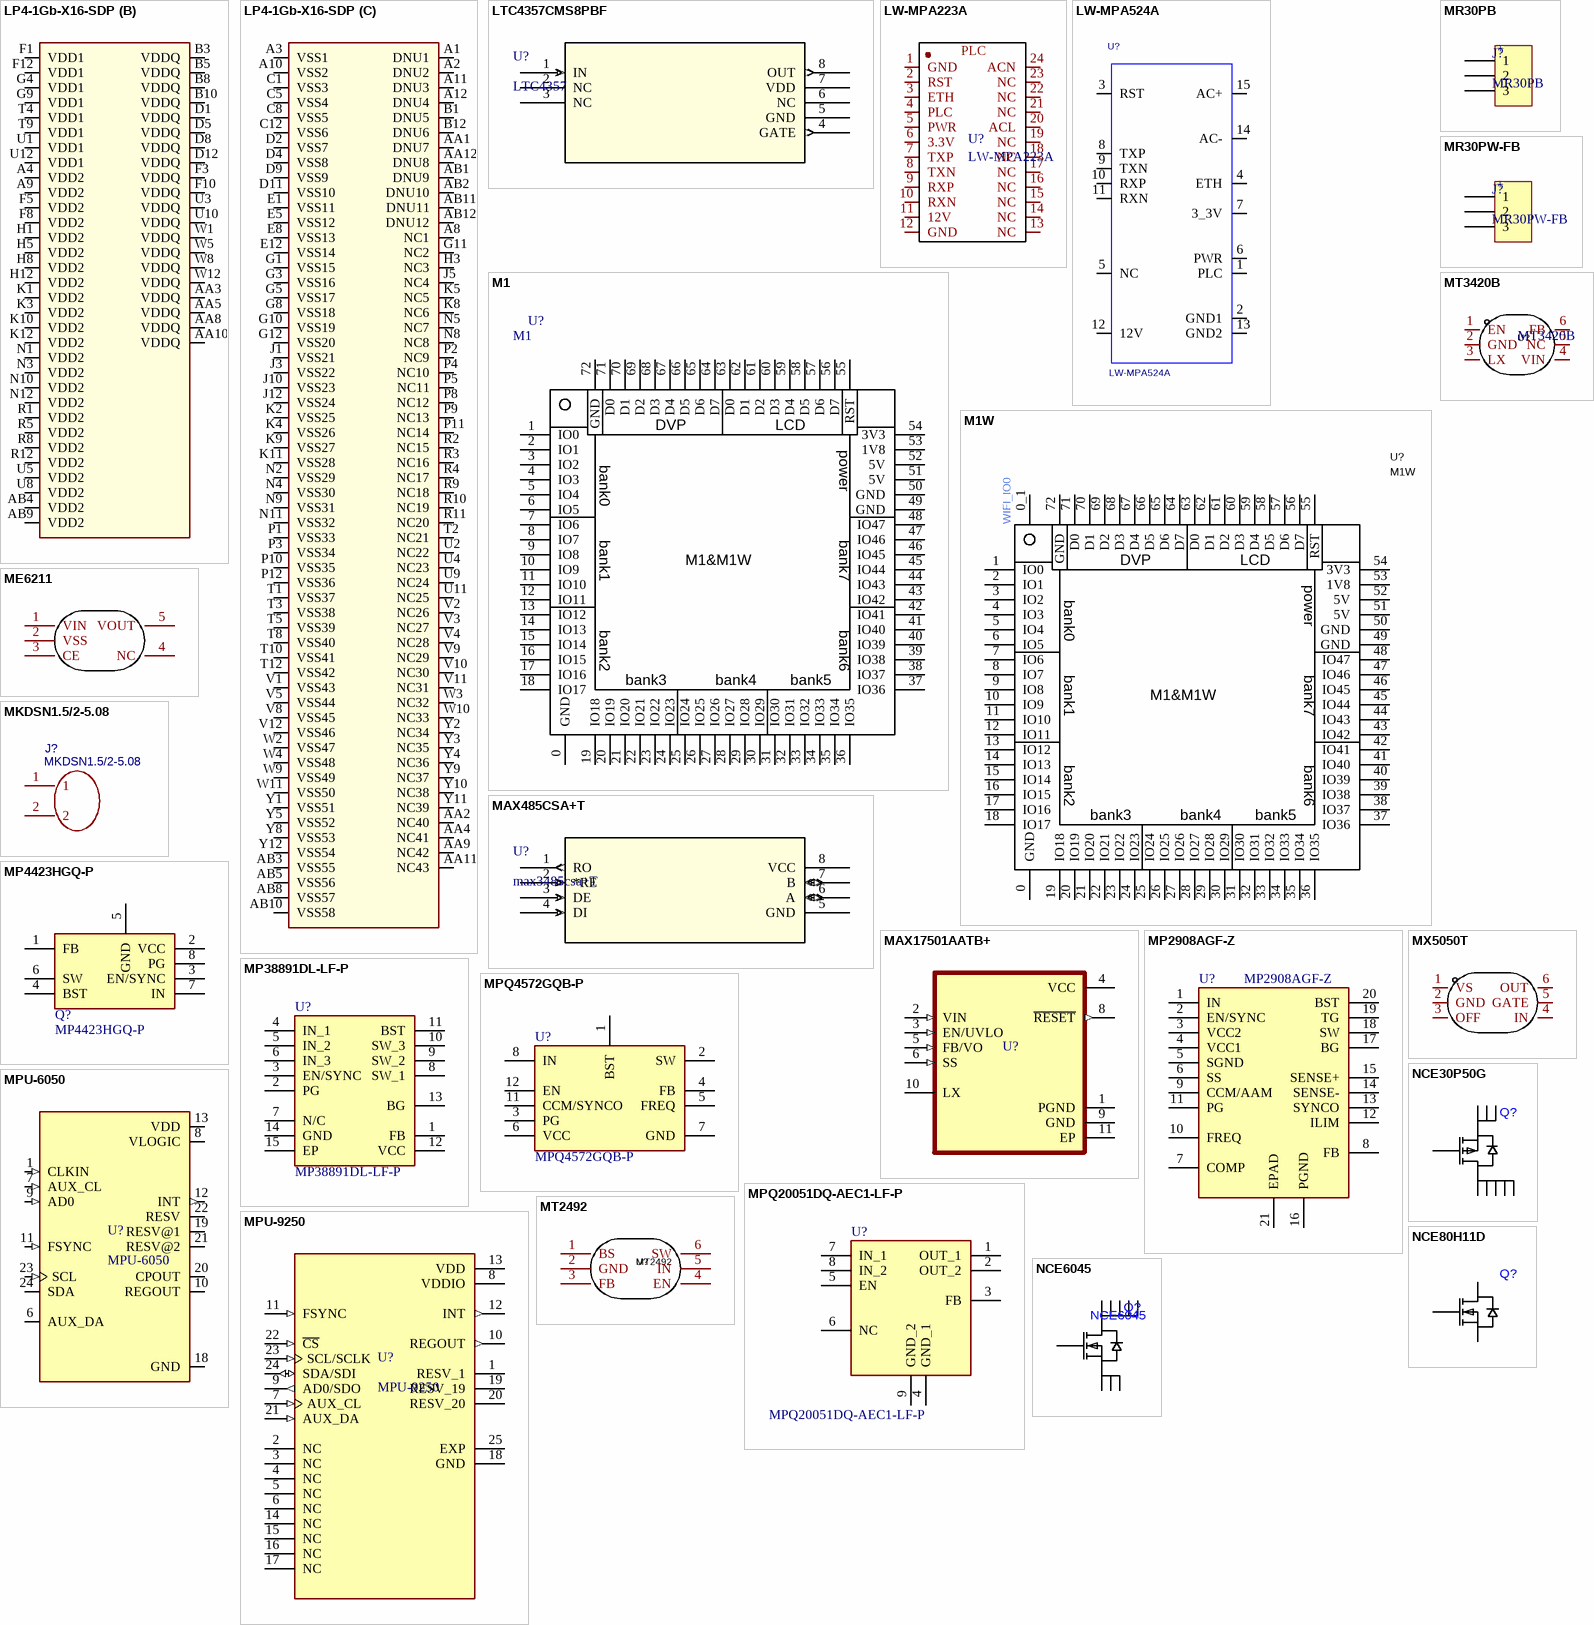
[diagram p7: symbols LP4-1Gb-X16-SDP to NCE6045]

## LP4-1Gb-X16-SDP
designator U?
LPDDR4; SWAP_INFO: (S1+S2+S3); SPLIT_INST: TRUE
footprint BGA200-080065-1510-009
part A pins: A5 ZQ0, B2 DQ0_A, B4 DQ7_A, B9 DQ15_A, B11 DQ8_A, C2 DQ1_A, C3 DMI0_A, C4 DQ6_A, C9 DQ14_A, C10 DMI1_A, C11 DQ9_A, D3 DQS0_T_A, D10 DQS1_T_A, E2 DQ2_A, E3 DQS0_C_A, E4 DQ5_A, E9 DQ13_A, E10 DQS1_C_A, E11 DQ10_A, F2 DQ3_A, F4 DQ4_A, F9 DQ12_A, F11 DQ11_A, G2 ODT_CA_A, H2 CA0_A, H4 CS0_A, H9 CA2_A, H10 CA3_A, H11 CA4_A, J2 CA1_A, J4 CKE0_A, J8 CK_T_A, J9 CK_C_A, J11 CA5_A, T11 RESET_N
part B pins: A4 VDD2 (power), A9 VDD2 (power), AA3 VDDQ (power), AA5 VDDQ (power), AA8 VDDQ (power), AA10 VDDQ (power), AB4 VDD2 (power), AB9 VDD2 (power), B3 VDDQ (power), B5 VDDQ (power), B8 VDDQ (power), B10 VDDQ (power), D1 VDDQ (power), D5 VDDQ (power), D8 VDDQ (power), D12 VDDQ (power), F1 VDD1 (power), F3 VDDQ (power), F5 VDD2 (power), F8 VDD2 (power), F10 VDDQ (power), F12 VDD1 (power), G4 VDD1 (power), G9 VDD1 (power), H1 VDD2 (power), H5 VDD2 (power), H8 VDD2 (power), H12 VDD2 (power), K1 VDD2 (power), K3 VDD2 (power), K10 VDD2 (power), K12 VDD2 (power), N1 VDD2 (power), N3 VDD2 (power), N10 VDD2 (power), N12 VDD2 (power), R1 VDD2 (power), R5 VDD2 (power), R8 VDD2 (power), R12 VDD2 (power), T4 VDD1 (power), T9 VDD1 (power), U1 VDD1 (power), U3 VDDQ (power), U5 VDD2 (power), U8 VDD2 (power), U10 VDDQ (power), U12 VDD1 (power), W1 VDDQ (power), W5 VDDQ (power), W8 VDDQ (power), W12 VDDQ (power)
part C pins: A1 DNU1, A2 DNU2, A3 VSS1, A8 NC1, A10 VSS2, A11 DNU3, A12 DNU4, AA1 DNU7, AA2 NC40, AA4 NC41, AA9 NC42, AA11 NC43, AA12 DNU8, AB1 DNU9, AB2 DNU10, AB3 VSS55, AB5 VSS56, AB8 VSS57, AB10 VSS58, AB11 DNU11, AB12 DNU12, B1 DNU5, B12 DNU6, C1 VSS3, C5 VSS4, C8 VSS5, C12 VSS6, D2 VSS7, D4 VSS8, D9 VSS9, D11 VSS10, E1 VSS11, E5 VSS12, E8 VSS13, E12 VSS14, G1 VSS15, G3 VSS16, G5 VSS17, G8 VSS18, G10 VSS19, G11 NC2, G12 VSS20, H3 NC3, J1 VSS21, J3 VSS22, J5 NC4, J10 VSS23, J12 VSS24, K2 VSS25, K4 VSS26, K5 NC5, K8 NC6, K9 VSS27, K11 VSS28, N2 VSS29, N4 VSS30, N5 NC7, N8 NC8, N9 VSS31, N11 VSS32, P1 VSS33, P2 NC9, P3 VSS34, P4 NC10, P5 NC11, P8 NC12, P9 NC13, P10 VSS35, P11 NC14, P12 VSS36, R2 NC15, R3 NC16, R4 NC17, R9 NC18, R10 NC19, R11 NC20, T1 VSS37, T2 NC21, T3 VSS38, T5 VSS39, T8 VSS40, T10 VSS41, T12 VSS42, U2 NC22, U4 NC23, U9 NC24, U11 NC25, V1 VSS43, V2 NC26, V3 NC27, V4 NC28, V5 VSS44, V8 VSS45, V9 NC29, V10 NC30, V11 NC31, V12 VSS46, W2 VSS47, W3 NC32, W4 VSS48, W9 VSS49, W10 NC33, W11 VSS50, Y1 VSS51, Y2 NC34, Y3 NC35, Y4 NC36, Y5 VSS52, Y8 VSS53, Y9 NC37, Y10 NC38, Y11 NC39, Y12 VSS54

## LTC4357CMS8PBF
designator U?, comment LTC4357
MOSFET Ideal Diode Controller; Mfr_Name: Analog Devices Inc; RefDes: RefDes; Type: Type
footprint MSOP-8_MS_LIT
footprint MSOP-8_MS_LIT-L
footprint MSOP-8_MS_LIT-M
pins: 1 IN (in), 2 NC, 3 NC, 4 GATE (out), 5 GND (power), 6 NC, 7 VDD (power), 8 OUT (out)

## LW-MPA223A
designator U?
Qualcomm Power Line Communication Module
footprint LW-MPA223A
pins: 1 GND, 2 RST, 3 ETH, 4 PLC, 5 PWR, 6 3.3V, 7 TXP, 8 TXN, 9 RXP, 10 RXN, 11 12V, 12 GND, 13 NC, 14 NC, 15 NC, 16 NC, 17 NC, 18 NC, 19 NC, 20 ACL, 21 NC, 22 NC, 23 NC, 24 ACN

## LW-MPA524A
designator U?
Qualcomm Power Line Communication Module; Source_Path: D:\WORK\BCM47531\LIBRARY1.OLB; PCB DECAL: LW-MPA524A; Value: LW-MPA524A
footprint LW-MPA524A
pins: 1 PLC, 2 GND1, 3 RST, 4 ETH, 5 NC, 6 PWR, 7 3_3V, 8 TXP, 9 TXN, 10 RXP, 11 RXN, 12 12V, 13 GND2, 14 AC-, 15 AC+

## M1
designator U?
Sipeed K210 Module
footprint M1
pins: 0 GND, 1 IO0, 2 IO1, 3 IO2, 4 IO3, 5 IO4, 6 IO5, 7 IO6, 8 IO7, 9 IO8, 10 IO9, 11 IO10, 12 IO11, 13 IO12, 14 IO13, 15 IO14, 16 IO15, 17 IO16, 18 IO17, 19 IO18, 20 IO19, 21 IO20, 22 IO21, 23 IO22, 24 IO23, 25 IO24, 26 IO25, 27 IO26, 28 IO27, 29 IO28, 30 IO29, 31 IO30, 32 IO31, 33 IO32, 34 IO33, 35 IO34, 36 IO35, 37 IO36, 38 IO37, 39 IO38, 40 IO39, 41 IO40, 42 IO41, 43 IO42, 44 IO43, 45 IO44, 46 IO45, 47 IO46, 48 IO47, 49 GND, 50 GND, 51 5V, 52 5V, 53 1V8, 54 3V3, 55 RST, 56 D7, 57 D6, 58 D5, 59 D4, 60 D3, 61 D2, 62 D1, 63 D0, 64 D7, 65 D6, 66 D5, 67 D4, 68 D3, 69 D2, 70 D1, 71 D0, 72 GND
text: DVP; LCD; power; bank0; bank1; bank7; bank2; bank6; bank3; bank4; bank5

## M1W
designator U?
Sipeed K210 Module
footprint M1W
pins: 0 GND, 0_1, 1 IO0, 2 IO1, 3 IO2, 4 IO3, 5 IO4, 6 IO5, 7 IO6, 8 IO7, 9 IO8, 10 IO9, 11 IO10, 12 IO11, 13 IO12, 14 IO13, 15 IO14, 16 IO15, 17 IO16, 18 IO17, 19 IO18, 20 IO19, 21 IO20, 22 IO21, 23 IO22, 24 IO23, 25 IO24, 26 IO25, 27 IO26, 28 IO27, 29 IO28, 30 IO29, 31 IO30, 32 IO31, 33 IO32, 34 IO33, 35 IO34, 36 IO35, 37 IO36, 38 IO37, 39 IO38, 40 IO39, 41 IO40, 42 IO41, 43 IO42, 44 IO43, 45 IO44, 46 IO45, 47 IO46, 48 IO47, 49 GND, 50 GND, 51 5V, 52 5V, 53 1V8, 54 3V3, 55 RST, 56 D7, 57 D6, 58 D5, 59 D4, 60 D3, 61 D2, 62 D1, 63 D0, 64 D7, 65 D6, 66 D5, 67 D4, 68 D3, 69 D2, 70 D1, 71 D0, 72 GND
text: WIFI_IO0; DVP; LCD; power; bank0; bank1; bank7; M1&M1W; bank2; bank6; bank3; bank4; bank5

## MAX485CSA+T
designator U?, comment max3485csa+T
TTL串口转RS485; Mfr_Name: Maxim Integrated Products; Copyright: Copyright (C) 2022 Ultra Librarian. All rights reserved.; Manufacturer_Part_Number: max3485csa+T; RefDes: RefDes; Type: DEV
footprint SOP-8_L4.9-W3.9-P1.27-LS6.0-BL
pins: 1 RO (out), 2 *RE (in), 3 DE (in), 4 DI (in), 5 GND (power), 6 A (io), 7 B (io), 8 VCC (power)

## MAX17501AATB+
designator U?
Buck Switching Regulator IC Positive Fixed 3.3V 1 Output 500mA 10-WFDFN Exposed Pad; MP: MAX17501AATB+; MF: Maxim Integrated; Availability: Warning; SnapEDA_Link: https://www.snapeda.com/parts/MAX17501AATB+/Maxim%20Integrated/view-part/583992/?ref=snap; Price: None; Check_prices: https://www.snapeda.com/parts/MAX17501AATB+/Maxim%20Integrated/view-part/583992/?ref=eda; Package: TDFN-10 Maxim; Purchase-URL: https://pricing.snapeda.com/search/part/MAX17501AATB+/?ref=eda; Value: *
footprint SON50P300X200X80-11N
pins: 1 PGND (power), 2 VIN (in), 3 EN/UVLO (in), 4 VCC (power), 5 FB/VO (in), 6 SS (in), 8 ~{RESET} (out), 9 GND (power), 10 LX, 11 EP (power)

## ME6211
designator U?  (value not drawn)
LDO; Manufacturer: SGMICRO(圣邦微); Name: SGM2028-3.3YN5G/TR; Add into BOM: yes; Output Type: 固定; Output Polarity: 正; Number of Outputs: 1; Maximum Input Voltage: 5.5V; Output Voltage: 3.3V; Dropout Voltage: 420mV@(500mA); Output Current: 500mA; Power Supply Rejection Ratio (PSRR): 77dB; Symbol: SGM2028-3.3YN5G/TR; Device: SGM2028-3.3YN5G/TR; LCSC Part Name: 正 Vin=5.5V Vout=3.3V 500mA 77dB; Supplier Part: C81088; Manufacturer Part: SGM2028-3.3YN5G/TR; Supplier Footprint: SOT-23-5; JLCPCB Part Class: Extended Part; Datasheet: https://atta.szlcsc.com/upload/public/pdf/source/20170704/1499151376719.pdf; Supplier: LCSC; Convert to PCB: yes
footprint SOT23-5
pins: 1 VIN, 2 VSS, 3 CE, 4 NC, 5 VOUT

## MKDSN1.5/2-5.08
designator J?
KF128-5.08端子大电流版; BOM_Manufacturer: Phoenix Contact; BOM_Paste Type: expand; BOM_Assembly Type: manualWeld; BOM_Supplier: LCSC; BOM_Manufacturer Part: MKDSN1.5/2-5.08; BOM_Supplier Part: C91153; spicePre: C; spiceSymbolName: MKDSN1.5/2-5.08
footprint Pin2
pins: 1, 2